# Altium schematic symbol library PPC_notebook_electrical_schematics_v0.6_Library.SchLib: 163 symbols (part 1 of 2)
Pins are listed as number, name and electrical type; pins without a type are passive.

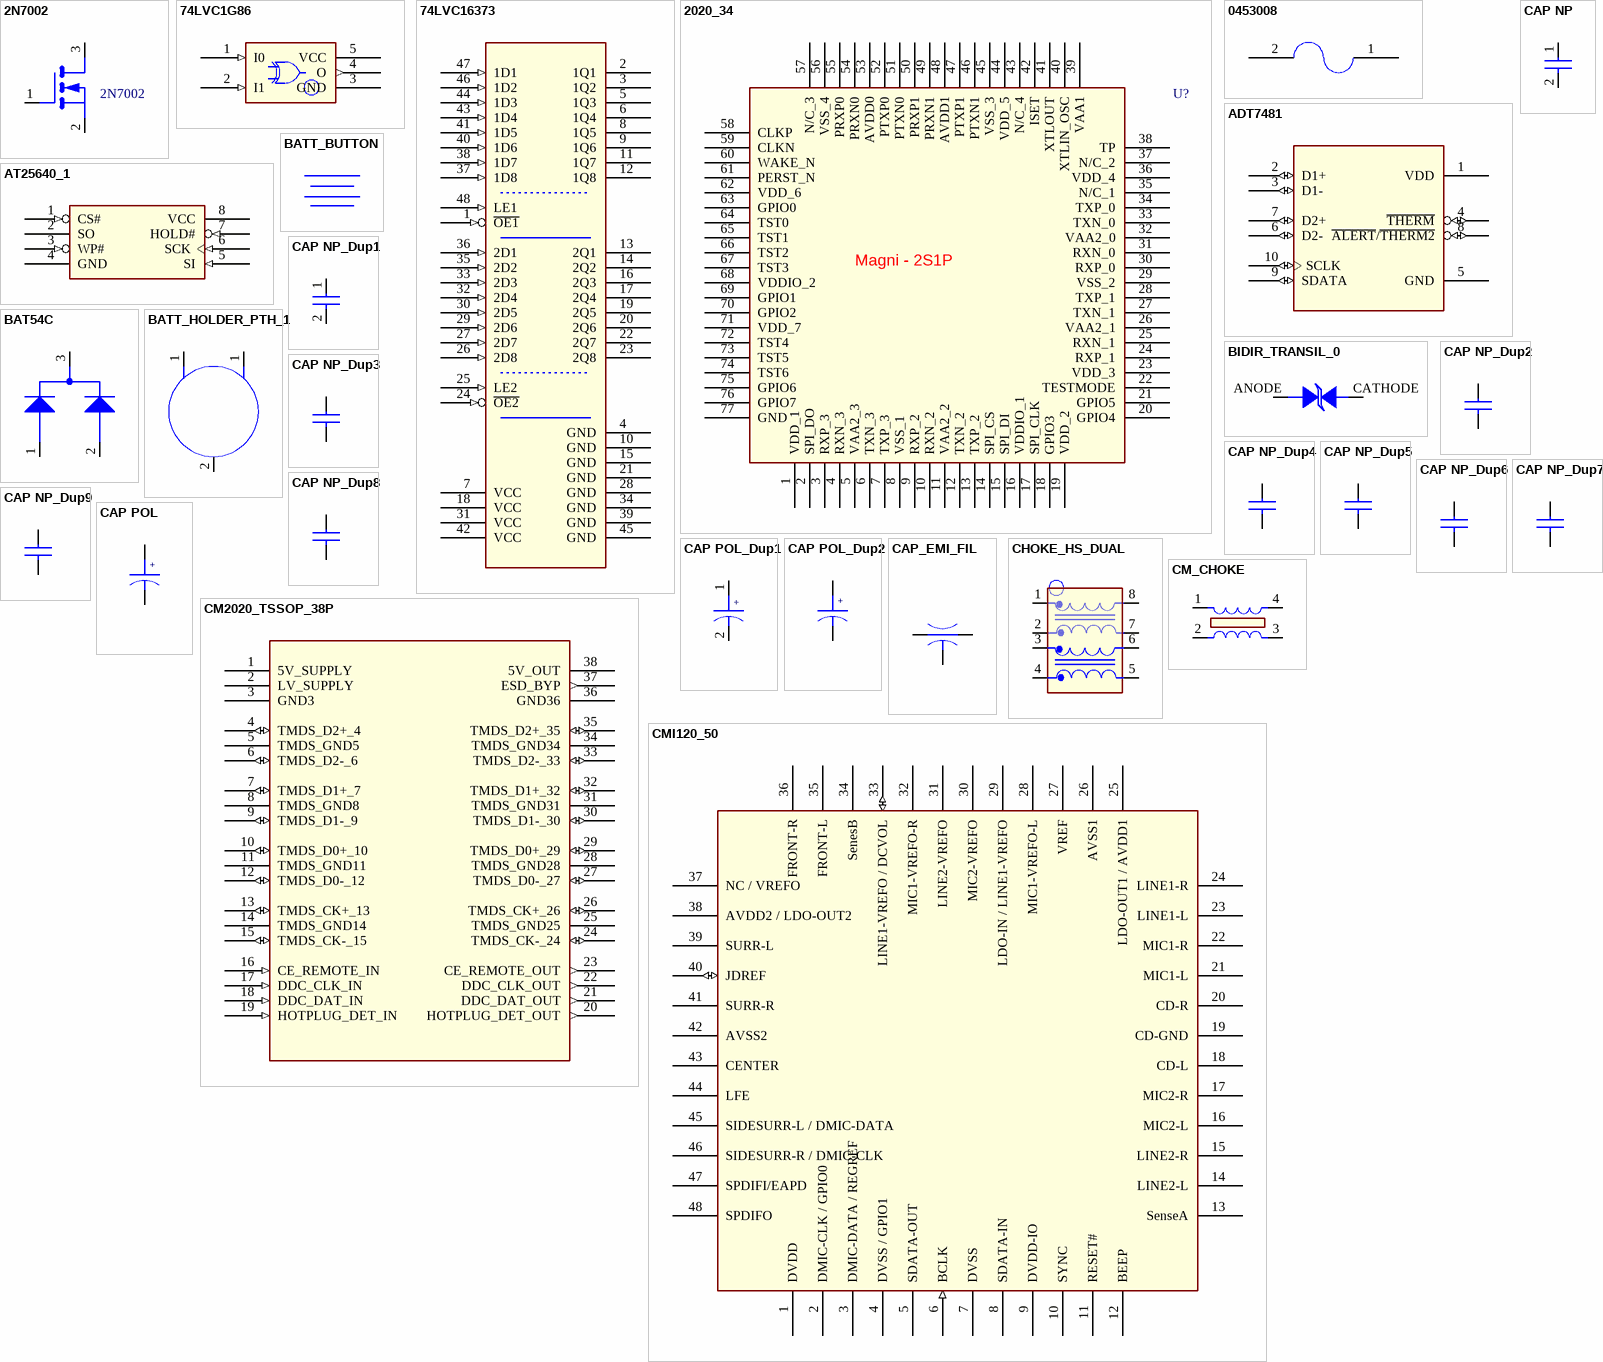
[diagram p0: symbols 2N7002 to CMI120_50]

## 2N7002
designator Q?
7TH PART FIELD: N-MOSFET; 4TH PART FIELD: ZETEX; 5TH PART FIELD: 2N7002
footprint SOT23
pins: 1, 2, 3

## 74LVC1G86
designator U?
footprint sc70_5
pins: 1 I0 (in), 2 I1 (in), 3 GND (power), 4 O (out), 5 VCC (power)

## 74LVC16373
designator U?
footprint tssop_48w
pins: 1 ~{OE1} (in), 2 1Q1 (hiz), 3 1Q2 (hiz), 4 GND (power), 5 1Q3 (hiz), 6 1Q4 (hiz), 7 VCC (power), 8 1Q5 (hiz), 9 1Q6 (hiz), 10 GND (power), 11 1Q7 (hiz), 12 1Q8 (hiz), 13 2Q1 (hiz), 14 2Q2 (hiz), 15 GND (power), 16 2Q3 (hiz), 17 2Q4 (hiz), 18 VCC (power), 19 2Q5 (hiz), 20 2Q6 (hiz), 21 GND (power), 22 2Q7 (hiz), 23 2Q8 (hiz), 24 ~{OE2} (in), 25 LE2 (in), 26 2D8 (in), 27 2D7 (in), 28 GND (power), 29 2D6 (in), 30 2D5 (in), 31 VCC (power), 32 2D4 (in), 33 2D3 (in), 34 GND (power), 35 2D2 (in), 36 2D1 (in), 37 1D8 (in), 38 1D7 (in), 39 GND (power), 40 1D6 (in), 41 1D5 (in), 42 VCC (power), 43 1D4 (in), 44 1D3 (in), 45 GND (power), 46 1D2 (in), 47 1D1 (in), 48 LE1 (in)

## 2020_34
designator U?  Display Value: Magni - 2S1P  (hidden comment: *)
2020; MFR_Name: Marvell Semi; Mfr_Part_Number: 2020; Distributor_Part_Number: www.unique-technologies.com
pins: 1 VDD_1 (power), 2 SPI_DO, 3 RXP_3, 4 RXN_3, 5 VAA2_3 (power), 6 TXN_3, 7 TXP_3, 8 VSS_1 (power), 9 RXP_2, 10 RXN_2, 11 VAA2_2 (power), 12 TXN_2, 13 TXP_2, 14 SPI_CS, 15 SPI_DI, 16 VDDIO_1 (power), 17 SPI_CLK, 18 GPIO3, 19 VDD_2 (power), 20 GPIO4, 21 GPIO5, 22 TESTMODE, 23 VDD_3 (power), 24 RXP_1, 25 RXN_1, 26 VAA2_1, 27 TXN_1, 28 TXP_1, 29 VSS_2 (power), 30 RXP_0, 31 RXN_0, 32 VAA2_0, 33 TXN_0, 34 TXP_0, 35 N/C_1, 36 VDD_4 (power), 37 N/C_2, 38 TP, 39 VAA1 (power), 40 XTLIN_OSC, 41 XTLOUT, 42 ISET, 43 N/C_4, 44 VDD_5 (power), 45 VSS_3 (power), 46 PTXN1, 47 PTXP1, 48 AVDD1 (power), 49 PRXN1, 50 PRXP1, 51 PTXN0, 52 PTXP0, 53 AVDD0 (power), 54 PRXN0, 55 PRXP0, 56 VSS_4 (power), 57 N/C_3, 58 CLKP, 59 CLKN, 60 WAKE_N, 61 PERST_N, 62 VDD_6 (power), 63 GPIO0, 64 TST0, 65 TST1, 66 TST2, 67 TST3, 68 VDDIO_2 (power), 69 GPIO1, 70 GPIO2, 71 VDD_7 (power), 72 TST4, 73 TST5, 74 TST6, 75 GPIO6, 76 GPIO7, 77 GND (power)

## 0453008
designator FUSE?
footprint SMD
pins: 1, 2

## ADT7481
designator U?
footprint msop_10
pins: 1 VDD (power), 2 D1+ (io), 3 D1- (io), 4 ~{THERM} (io), 5 GND (power), 6 D2- (io), 7 D2+ (io), 8 ~{ALERT}/~{THERM2} (io), 9 SDATA (io), 10 SCLK (io)

## AT25640_1
designator U?
pins: 1 CS# (in), 2 SO (hiz), 3 WP# (in), 4 GND, 5 SI (in), 6 SCK (in), 7 HOLD# (in), 8 VCC

## BAT54C
designator D?
pins: 1 C1, 2 C2, 3 A

## BATT_BUTTON
designator BATT?

## BATT_HOLDER_PTH_1
designator BT?
pins: 1 1POS, 1 3POS, 2 2NEG (power)

## BIDIR_TRANSIL_0
designator D?
pins: ANODE, CATHODE

## CAP NP
designator C?
pins: 1, 2

## CAP NP_Dup1
designator C?
pins: 1, 2

## CAP NP_Dup2
designator C?
pins: 1, 2

## CAP NP_Dup3
designator C?
pins: 1, 2

## CAP NP_Dup4
designator C?
pins: 1, 2

## CAP NP_Dup5
designator C?
pins: 1, 2

## CAP NP_Dup6
designator C?
pins: 1, 2

## CAP NP_Dup7
designator C?
pins: 1, 2

## CAP NP_Dup8
designator C?
pins: 1, 2

## CAP NP_Dup9
designator C?
pins: 1, 2

## CAP POL
designator C?
pins: 1, 2
text: +

## CAP POL_Dup1
designator C?
pins: 1, 2
text: +

## CAP POL_Dup2
designator C?
pins: 1, 2
text: +

## CAP_EMI_FIL
designator FL?
pins: 1 IN, 2 GND, 3 OUT

## CHOKE_HS_DUAL
designator FL?
pins: 1, 2, 3, 4, 5, 6, 7, 8

## CM2020_TSSOP_38P
designator U?
CLASS: IC
pins: 1 5V_SUPPLY (power), 2 LV_SUPPLY (power), 3 GND3 (power), 4 TMDS_D2+_4 (io), 5 TMDS_GND5 (power), 6 TMDS_D2-_6 (io), 7 TMDS_D1+_7 (io), 8 TMDS_GND8 (power), 9 TMDS_D1-_9 (io), 10 TMDS_D0+_10 (io), 11 TMDS_GND11 (power), 12 TMDS_D0-_12 (io), 13 TMDS_CK+_13 (io), 14 TMDS_GND14 (power), 15 TMDS_CK-_15 (io), 16 CE_REMOTE_IN (in), 17 DDC_CLK_IN (in), 18 DDC_DAT_IN (in), 19 HOTPLUG_DET_IN (in), 20 HOTPLUG_DET_OUT (out), 21 DDC_DAT_OUT (out), 22 DDC_CLK_OUT (out), 23 CE_REMOTE_OUT (out), 24 TMDS_CK-_24 (io), 25 TMDS_GND25 (power), 26 TMDS_CK+_26 (io), 27 TMDS_D0-_27 (io), 28 TMDS_GND28 (power), 29 TMDS_D0+_29 (io), 30 TMDS_D1-_30 (io), 31 TMDS_GND31 (power), 32 TMDS_D1+_32 (io), 33 TMDS_D2-_33 (io), 34 TMDS_GND34 (power), 35 TMDS_D2+_35 (io), 36 GND36 (power), 37 ESD_BYP (out), 38 5V_OUT (power)

## CM_CHOKE
designator L?
pins: 1, 2, 3, 4

## CMI120_50
designator U?
pins: 1 DVDD (power), 2 DMIC-CLK / GPIO0, 3 DMIC-DATA / REGREF, 4 DVSS / GPIO1 (power), 5 SDATA-OUT, 6 BCLK (in), 7 DVSS (power), 8 SDATA-IN, 9 DVDD-IO, 10 SYNC, 11 RESET#, 12 BEEP, 13 SenseA, 14 LINE2-L, 15 LINE2-R, 16 MIC2-L, 17 MIC2-R, 18 CD-L, 19 CD-GND, 20 CD-R, 21 MIC1-L, 22 MIC1-R, 23 LINE1-L, 24 LINE1-R, 25 LDO-OUT1 / AVDD1 (power), 26 AVSS1 (power), 27 VREF, 28 MIC1-VREFO-L, 29 LDO-IN / LINE1-VREFO, 30 MIC2-VREFO, 31 LINE2-VREFO, 32 MIC1-VREFO-R, 33 LINE1-VREFO / DCVOL (io), 34 SenesB, 35 FRONT-L, 36 FRONT-R, 37 NC / VREFO, 38 AVDD2 / LDO-OUT2 (power), 39 SURR-L, 40 JDREF (io), 41 SURR-R, 42 AVSS2, 43 CENTER, 44 LFE, 45 SIDESURR-L / DMIC-DATA, 46 SIDESURR-R / DMIC-CLK, 47 SPDIFI/EAPD, 48 SPDIFO

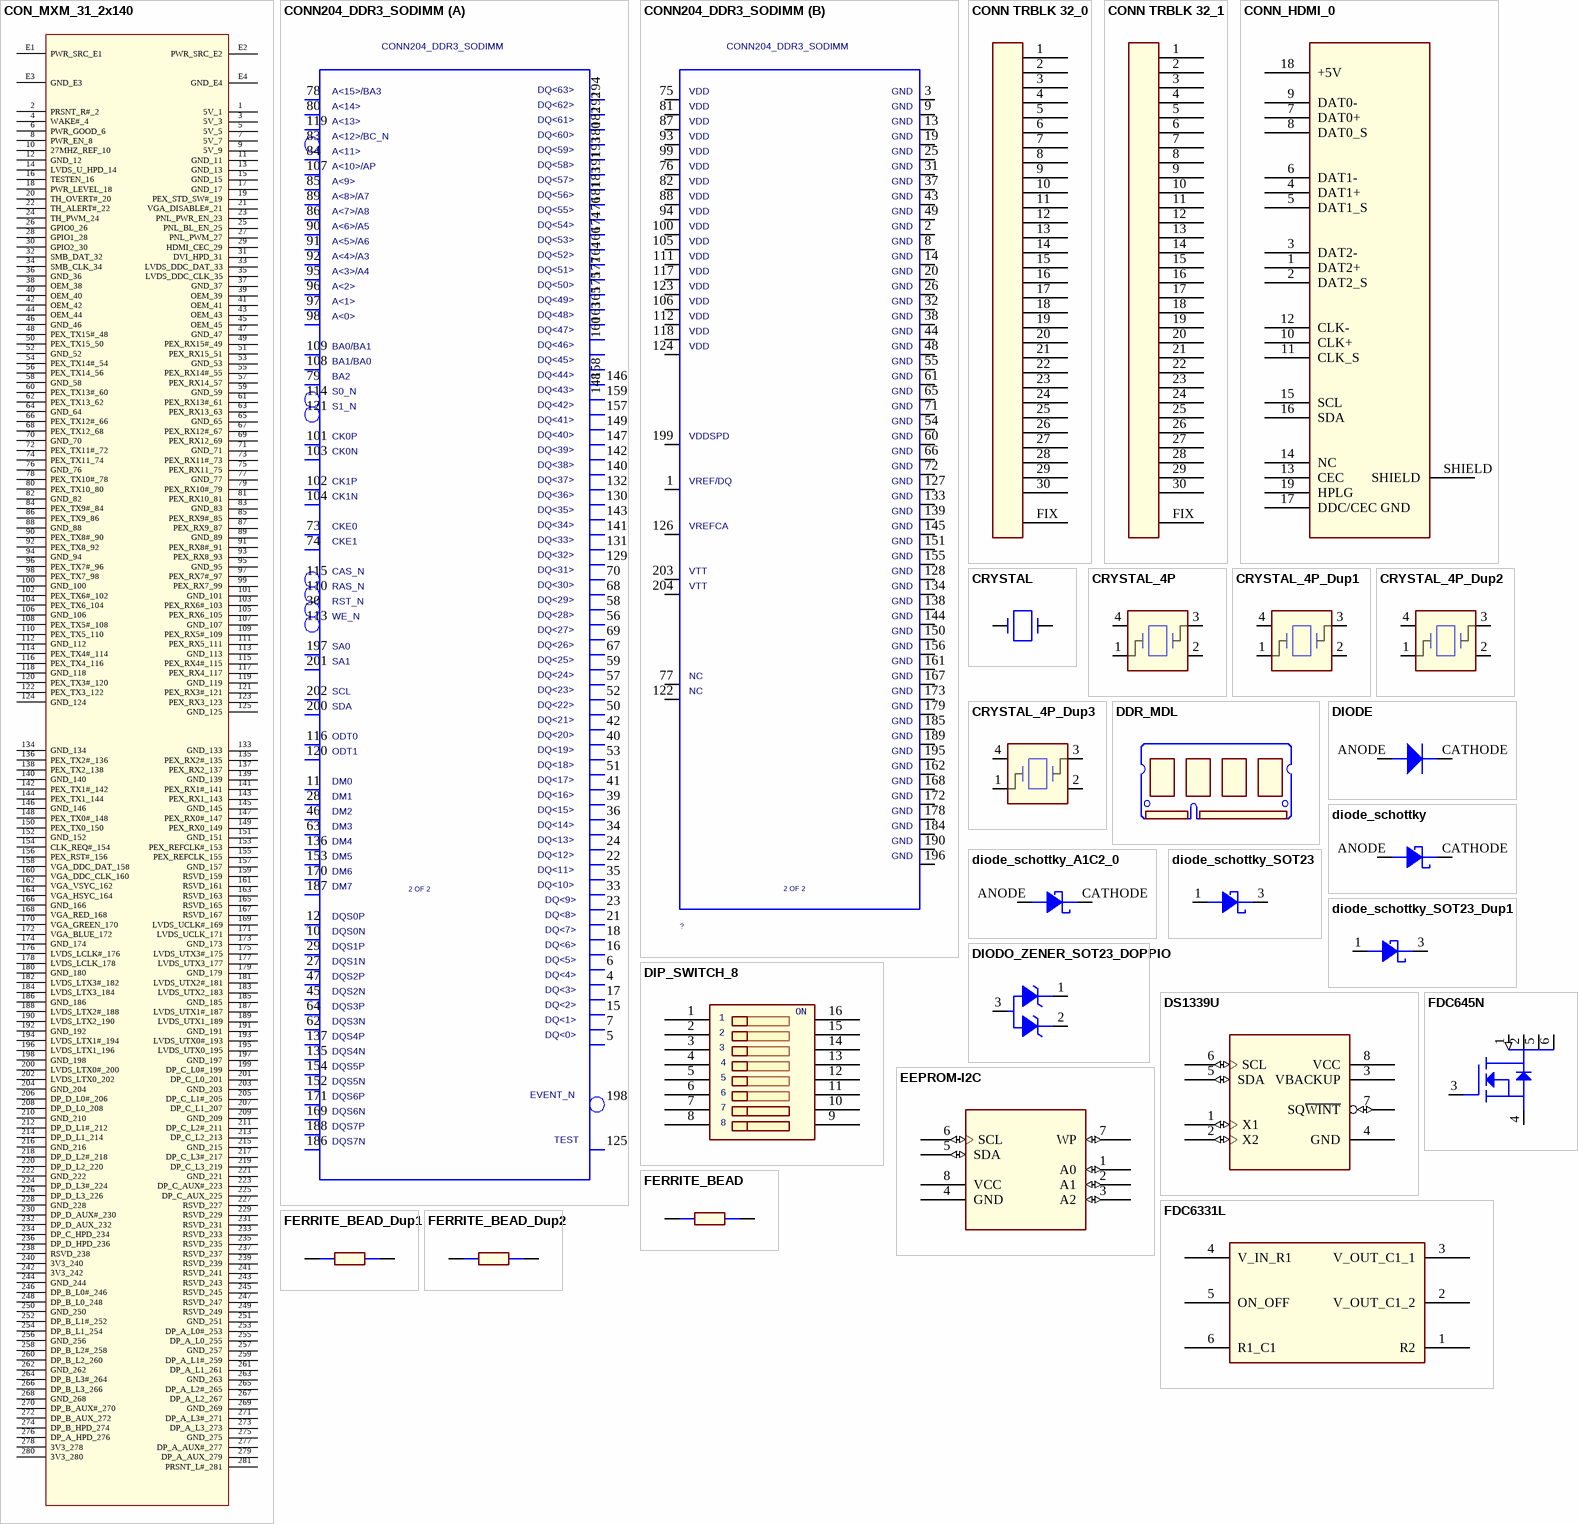
[diagram p1: symbols CON_MXM_31_2x140 to FERRITE_BEAD_Dup2]

## CON_MXM_31_2x140
designator J?
pins: 1 5V_1, 2 PRSNT_R#_2, 3 5V_3, 4 WAKE#_4, 5 5V_5, 6 PWR_GOOD_6, 7 5V_7, 8 PWR_EN_8, 9 5V_9, 10 27MHZ_REF_10, 11 GND_11, 12 GND_12, 13 GND_13, 14 LVDS_U_HPD_14, 15 GND_15, 16 TESTEN_16, 17 GND_17, 18 PWR_LEVEL_18, 19 PEX_STD_SW#_19, 20 TH_OVERT#_20, 21 VGA_DISABLE#_21, 22 TH_ALERT#_22, 23 PNL_PWR_EN_23, 24 TH_PWM_24, 25 PNL_BL_EN_25, 26 GPIO0_26, 27 PNL_PWM_27, 28 GPIO1_28, 29 HDMI_CEC_29, 30 GPIO2_30, 31 DVI_HPD_31, 32 SMB_DAT_32, 33 LVDS_DDC_DAT_33, 34 SMB_CLK_34, 35 LVDS_DDC_CLK_35, 36 GND_36, 37 GND_37, 38 OEM_38, 39 OEM_39, 40 OEM_40, 41 OEM_41, 42 OEM_42, 43 OEM_43, 44 OEM_44, 45 OEM_45, 46 GND_46, 47 GND_47, 48 PEX_TX15#_48, 49 PEX_RX15#_49, 50 PEX_TX15_50, 51 PEX_RX15_51, 52 GND_52, 53 GND_53, 54 PEX_TX14#_54, 55 PEX_RX14#_55, 56 PEX_TX14_56, 57 PEX_RX14_57, 58 GND_58, 59 GND_59, 60 PEX_TX13#_60, 61 PEX_RX13#_61, 62 PEX_TX13_62, 63 PEX_RX13_63, 64 GND_64, 65 GND_65, 66 PEX_TX12#_66, 67 PEX_RX12#_67, 68 PEX_TX12_68, 69 PEX_RX12_69, 70 GND_70, 71 GND_71, 72 PEX_TX11#_72, 73 PEX_RX11#_73, 74 PEX_TX11_74, 75 PEX_RX11_75, 76 GND_76, 77 GND_77, 78 PEX_TX10#_78, 79 PEX_RX10#_79, 80 PEX_TX10_80, 81 PEX_RX10_81, 82 GND_82, 83 GND_83, 84 PEX_TX9#_84, 85 PEX_RX9#_85, 86 PEX_TX9_86, 87 PEX_RX9_87, 88 GND_88, 89 GND_89, 90 PEX_TX8#_90, 91 PEX_RX8#_91, 92 PEX_TX8_92, 93 PEX_RX8_93, 94 GND_94, 95 GND_95, 96 PEX_TX7#_96, 97 PEX_RX7#_97, 98 PEX_TX7_98, 99 PEX_RX7_99, 100 GND_100, 101 GND_101, 102 PEX_TX6#_102, 103 PEX_RX6#_103, 104 PEX_TX6_104, 105 PEX_RX6_105, 106 GND_106, 107 GND_107, 108 PEX_TX5#_108, 109 PEX_RX5#_109, 110 PEX_TX5_110, 111 PEX_RX5_111, 112 GND_112, 113 GND_113, 114 PEX_TX4#_114, 115 PEX_RX4#_115, 116 PEX_TX4_116, 117 PEX_RX4_117, 118 GND_118, 119 GND_119, 120 PEX_TX3#_120, 121 PEX_RX3#_121, 122 PEX_TX3_122, 123 PEX_RX3_123, 124 GND_124, 125 GND_125, 133 GND_133, 134 GND_134, 135 PEX_RX2#_135, 136 PEX_TX2#_136, 137 PEX_RX2_137, 138 PEX_TX2_138, 139 GND_139, 140 GND_140, 141 PEX_RX1#_141, 142 PEX_TX1#_142, 143 PEX_RX1_143, 144 PEX_TX1_144, 145 GND_145, 146 GND_146, 147 PEX_RX0#_147, 148 PEX_TX0#_148, 149 PEX_RX0_149, 150 PEX_TX0_150, 151 GND_151, 152 GND_152, 153 PEX_REFCLK#_153, 154 CLK_REQ#_154, 155 PEX_REFCLK_155, 156 PEX_RST#_156, 157 GND_157, 158 VGA_DDC_DAT_158, 159 RSVD_159, 160 VGA_DDC_CLK_160, 161 RSVD_161, 162 VGA_VSYC_162, 163 RSVD_163, 164 VGA_HSYC_164, 165 RSVD_165, 166 GND_166, 167 RSVD_167, 168 VGA_RED_168, 169 LVDS_UCLK#_169, 170 VGA_GREEN_170, 171 LVDS_UCLK_171, 172 VGA_BLUE_172, 173 GND_173, 174 GND_174, 175 LVDS_UTX3#_175, 176 LVDS_LCLK#_176, 177 LVDS_UTX3_177, 178 LVDS_LCLK_178, 179 GND_179, 180 GND_180, 181 LVDS_UTX2#_181, 182 LVDS_LTX3#_182, 183 LVDS_UTX2_183, 184 LVDS_LTX3_184, 185 GND_185, 186 GND_186, 187 LVDS_UTX1#_187, 188 LVDS_LTX2#_188, 189 LVDS_UTX1_189, 190 LVDS_LTX2_190, 191 GND_191, 192 GND_192, 193 LVDS_UTX0#_193, 194 LVDS_LTX1#_194, 195 LVDS_UTX0_195, 196 LVDS_LTX1_196, 197 GND_197, 198 GND_198, 199 DP_C_L0#_199, 200 LVDS_LTX0#_200, 201 DP_C_L0_201, 202 LVDS_LTX0_202, 203 GND_203, 204 GND_204, 205 DP_C_L1#_205, 206 DP_D_L0#_206, 207 DP_C_L1_207, 208 DP_D_L0_208, 209 GND_209, 210 GND_210, 211 DP_C_L2#_211, 212 DP_D_L1#_212, 213 DP_C_L2_213, 214 DP_D_L1_214, 215 GND_215, 216 GND_216, 217 DP_C_L3#_217, 218 DP_D_L2#_218, 219 DP_C_L3_219, 220 DP_D_L2_220, 221 GND_221, 222 GND_222, 223 DP_C_AUX#_223, 224 DP_D_L3#_224, 225 DP_C_AUX_225, 226 DP_D_L3_226, 227 RSVD_227, 228 GND_228, 229 RSVD_229, 230 DP_D_AUX#_230, 231 RSVD_231, 232 DP_D_AUX_232, 233 RSVD_233, 234 DP_C_HPD_234, 235 RSVD_235, 236 DP_D_HPD_236, 237 RSVD_237, 238 RSVD_238, 239 RSVD_239, 240 3V3_240, 241 RSVD_241, 242 3V3_242, 243 RSVD_243, 244 GND_244, 245 RSVD_245, 246 DP_B_L0#_246, 247 RSVD_247, 248 DP_B_L0_248, 249 RSVD_249, 250 GND_250, 251 GND_251, 252 DP_B_L1#_252, 253 DP_A_L0#_253, 254 DP_B_L1_254, 255 DP_A_L0_255, 256 GND_256, 257 GND_257, 258 DP_B_L2#_258, 259 DP_A_L1#_259, 260 DP_B_L2_260, 261 DP_A_L1_261, 262 GND_262, 263 GND_263, 264 DP_B_L3#_264, 265 DP_A_L2#_265, 266 DP_B_L3_266, 267 DP_A_L2_267, 268 GND_268, 269 GND_269, 270 DP_B_AUX#_270, 271 DP_A_L3#_271, 272 DP_B_AUX_272, 273 DP_A_L3_273, 274 DP_B_HPD_274, 275 GND_275, 276 DP_A_HPD_276, 277 DP_A_AUX#_277, 278 3V3_278, 279 DP_A_AUX_279, 280 3V3_280, 281 PRSNT_L#_281, E1 PWR_SRC_E1, E2 PWR_SRC_E2, E3 GND_E3, E4 GND_E4

## CONN204_DDR3_SODIMM
designator ?  PART_SYM_NUM: 2 OF 2  (hidden comment: CONN204_DDR3_SODIMM)
OriginalSymbolOrigin: (-400,1400); MATERIAL: ?; PACK_TYPE: ?; PART_NUMBER: ?
part A pins: 4 DQ[4] (io), 5 DQ[0] (io), 6 DQ[5] (io), 7 DQ[1] (io), 10 DQS0N (io), 11 DM0 (io), 12 DQS0P (io), 15 DQ[2] (io), 16 DQ[6] (io), 17 DQ[3] (io), 18 DQ[7] (io), 21 DQ[8] (io), 22 DQ[12] (io), 23 DQ[9] (io), 24 DQ[13] (io), 27 DQS1N (io), 28 DM1 (io), 29 DQS1P (io), 30 RST_N (io), 33 DQ[10] (io), 34 DQ[14] (io), 35 DQ[11] (io), 36 DQ[15] (io), 39 DQ[16] (io), 40 DQ[20] (io), 41 DQ[17] (io), 42 DQ[21] (io), 45 DQS2N (io), 46 DM2 (io), 47 DQS2P (io), 50 DQ[22] (io), 51 DQ[18] (io), 52 DQ[23] (io), 53 DQ[19] (io), 56 DQ[28] (io), 57 DQ[24] (io), 58 DQ[29] (io), 59 DQ[25] (io), 62 DQS3N (io), 63 DM3 (io), 64 DQS3P (io), 67 DQ[26] (io), 68 DQ[30] (io), 69 DQ[27] (io), 70 DQ[31] (io), 73 CKE0 (io), 74 CKE1 (io), 78 A[15] (io), 79 BA2 (io), 80 A[14] (in), 83 A[12] (in), 84 A[11] (in), 85 A[9] (in), 86 A[7] (in), 89 A[8] (in), 90 A[6] (in), 91 A[5] (in), 92 A[4] (in), 95 A[3] (in), 96 A[2] (in), 97 A[1] (in), 98 A[0] (in), 101 CK0P (io), 102 CK1P (io), 103 CK0N (io), 104 CK1N (io), 107 A[10] (in), 108 BA1_BA0 (io), 109 BA0_BA1 (io), 110 RAS_N (io), 113 WE_N (io), 114 S0_N (io), 115 CAS_N (io), 116 ODT0 (io), 119 A[13] (in), 120 ODT1 (io), 121 S1_N (io), 125 TEST (io), 129 DQ[32] (io), 130 DQ[36] (io), 131 DQ[33] (io), 132 DQ[37] (io), 135 DQS4N (io), 136 DM4 (io), 137 DQS4P (io), 140 DQ[38] (io), 141 DQ[34] (io), 142 DQ[39] (io), 143 DQ[35] (io), 146 DQ[44] (io), 147 DQ[40] (io), 148 DQ[45] (io), 149 DQ[41] (io), 152 DQS5N (io), 153 DM5 (io), 154 DQS5P (io), 157 DQ[42] (io), 158 DQ[46] (io), 159 DQ[43] (io), 160 DQ[47] (io), 163 DQ[48] (io), 164 DQ[52] (io), 165 DQ[49] (io), 166 DQ[53] (io), 169 DQS6N (io), 170 DM6 (io), 171 DQS6P (io), 174 DQ[54] (io), 175 DQ[50] (io), 176 DQ[55] (io), 177 DQ[51] (io), 180 DQ[60] (io), 181 DQ[56] (io), 182 DQ[61] (io), 183 DQ[57] (io), 186 DQS7N (io), 187 DM7 (io), 188 DQS7P (io), 191 DQ[58] (io), 192 DQ[62] (io), 193 DQ[59] (io), 194 DQ[63] (io), 197 SA0 (io), 198 EVENT_N (io), 200 SDA (io), 201 SA1 (io), 202 SCL (io)
part B pins: 1 VREF_DQ (power), 2 GND_2 (io), 3 GND_3 (io), 8 GND_8 (io), 9 GND_9 (io), 13 GND_13 (io), 14 GND_14 (io), 19 GND_19 (io), 20 GND_20 (io), 25 GND_25 (io), 26 GND_26 (io), 31 GND_31 (io), 32 GND_32 (io), 37 GND_37 (io), 38 GND_38 (io), 43 GND_43 (io), 44 GND_44 (io), 48 GND_48 (io), 49 GND_49 (io), 54 GND_54 (io), 55 GND_55 (io), 60 GND_60 (io), 61 GND_61 (io), 65 GND_65 (io), 66 GND_66 (io), 71 GND_71 (io), 72 GND_72 (io), 75 VDD_75 (power), 76 VDD_76 (power), 77 NC_77 (io), 81 VDD_81 (power), 82 VDD_82 (power), 87 VDD_87 (power), 88 VDD_88 (power), 93 VDD_93 (power), 94 VDD_94 (power), 99 VDD_99 (power), 100 VDD_100 (power), 105 VDD_105 (power), 106 VDD_106 (power), 111 VDD_111 (power), 112 VDD_112 (power), 117 VDD_117 (power), 118 VDD_118 (power), 122 NC_122 (io), 123 VDD_123 (power), 124 VDD_124 (power), 126 VREFCA (power), 127 GND_127 (io), 128 GND_128 (io), 133 GND_133 (io), 134 GND_134 (io), 138 GND_138 (io), 139 GND_139 (io), 144 GND_144 (io), 145 GND_145 (io), 150 GND_150 (io), 151 GND_151 (io), 155 GND_155 (io), 156 GND_156 (io), 161 GND_161 (io), 162 GND_162 (io), 167 GND_167 (io), 168 GND_168 (io), 172 GND_172 (io), 173 GND_173 (io), 178 GND_178 (io), 179 GND_179 (io), 184 GND_184 (io), 185 GND_185 (io), 189 GND_189 (io), 190 GND_190 (io), 195 GND_195 (io), 196 GND_196 (io), 199 VDDSPD (power), 203 VTT_203 (power), 204 VTT_204 (power)
part A text: A<15>/BA3; DQ<63>; A<14>; DQ<62>; A<13>; DQ<61>; A<12>/BC_N; DQ<60>; A<11>; DQ<59>; A<10>/AP; DQ<58>; A<9>; DQ<57>; A<8>/A7; DQ<56>; A<7>/A8; DQ<55>; A<6>/A5; DQ<54>; A<5>/A6; DQ<53>; A<4>/A3; DQ<52>; A<3>/A4; DQ<51>; A<2>; DQ<50>; A<1>; DQ<49>; A<0>; DQ<48>; DQ<47>; BA0/BA1; DQ<46>; BA1/BA0; DQ<45>; DQ<44>; DQ<43>; DQ<42>; DQ<41>; DQ<40>; DQ<39>; DQ<38>; DQ<37>; DQ<36>; DQ<35>; DQ<34>; DQ<33>; DQ<32>; DQ<31>; DQ<30>; DQ<29>; DQ<28>; DQ<27>; DQ<26>; DQ<25>; DQ<24>; DQ<23>; DQ<22>; DQ<21>; DQ<20>; DQ<19>; DQ<18>; DQ<17>; DQ<16>; DQ<15>; DQ<14>; DQ<13>; DQ<12>; DQ<11>; DQ<10>; DQ<9>; DQ<8>; DQ<7>; DQ<6>; DQ<5>; DQ<4>; DQ<3>; DQ<2>; DQ<1>; DQ<0>
part B text: VDD; GND; VREF/DQ; VTT; NC

## CONN TRBLK 32_0
designator J?
pins: 1, 2, 3, 4, 5, 6, 7, 8, 9, 10, 11, 12, 13, 14, 15, 16, 17, 18, 19, 20, 21, 22, 23, 24, 25, 26, 27, 28, 29, 30, FIX

## CONN TRBLK 32_1
designator J?
pins: 1, 2, 3, 4, 5, 6, 7, 8, 9, 10, 11, 12, 13, 14, 15, 16, 17, 18, 19, 20, 21, 22, 23, 24, 25, 26, 27, 28, 29, 30, FIX

## CONN_HDMI_0
designator J?
pins: 1 DAT2+, 2 DAT2_S, 3 DAT2-, 4 DAT1+, 5 DAT1_S, 6 DAT1-, 7 DAT0+, 8 DAT0_S, 9 DAT0-, 10 CLK+, 11 CLK_S, 12 CLK-, 13 CEC, 14 NC, 15 SCL, 16 SDA, 17 DDC/CEC GND, 18 +5V, 19 HPLG, SHIELD

## CRYSTAL
designator Y?
pins: 1, 2

## CRYSTAL_4P
designator Y?
pins: 1, 2, 3, 4

## CRYSTAL_4P_Dup1
designator Y?
pins: 1, 2, 3, 4

## CRYSTAL_4P_Dup2
designator Y?
pins: 1, 2, 3, 4

## CRYSTAL_4P_Dup3
designator Y?
pins: 1, 2, 3, 4

## DDR_MDL
designator M?
footprint none

## DIODE
designator D?
pins: ANODE, CATHODE

## diode_schottky
designator D?
pins: ANODE, CATHODE

## diode_schottky_A1C2_0
designator D?
pins: ANODE, CATHODE

## diode_schottky_SOT23
designator D?
pins: 1 ANODE, 3 CATHODE

## diode_schottky_SOT23_Dup1
designator D?
pins: 1 ANODE, 3 CATHODE

## DIODO_ZENER_SOT23_DOPPIO
designator D?
pins: 1 CATHODE1, 2 CATHODE2, 3 ANODE

## DIP_SWITCH_8
designator S?
pins: 1, 2, 3, 4, 5, 6, 7, 8, 9, 10, 11, 12, 13, 14, 15, 16
text: ON

## DS1339U
designator U?
pins: 1 X1 (io), 2 X2 (io), 3 VBACKUP (power), 4 GND (power), 5 SDA (io), 6 SCL (io), 7 SQ~{WINT} (io), 8 VCC (power)

## EEPROM-I2C
designator U?
footprint so_8
pins: 1 A0 (io), 2 A1 (io), 3 A2 (io), 4 GND (power), 5 SDA (io), 6 SCL (io), 7 WP (io), 8 VCC (power)

## FDC645N
designator Q?
pins: 1 DRAIN1 (in), 2 DRAIN2, 3 GATE, 4 SOURCE, 5 DRAIN3, 6 DRAIN4

## FDC6331L
designator U?
CLASS: IC
pins: 1 R2, 2 V_OUT_C1_2, 3 V_OUT_C1_1, 4 V_IN_R1, 5 ON_OFF, 6 R1_C1

## FERRITE_BEAD
designator L?
pins: 1, 2

## FERRITE_BEAD_Dup1
designator L?
pins: 1, 2

## FERRITE_BEAD_Dup2
designator L?
pins: 1, 2

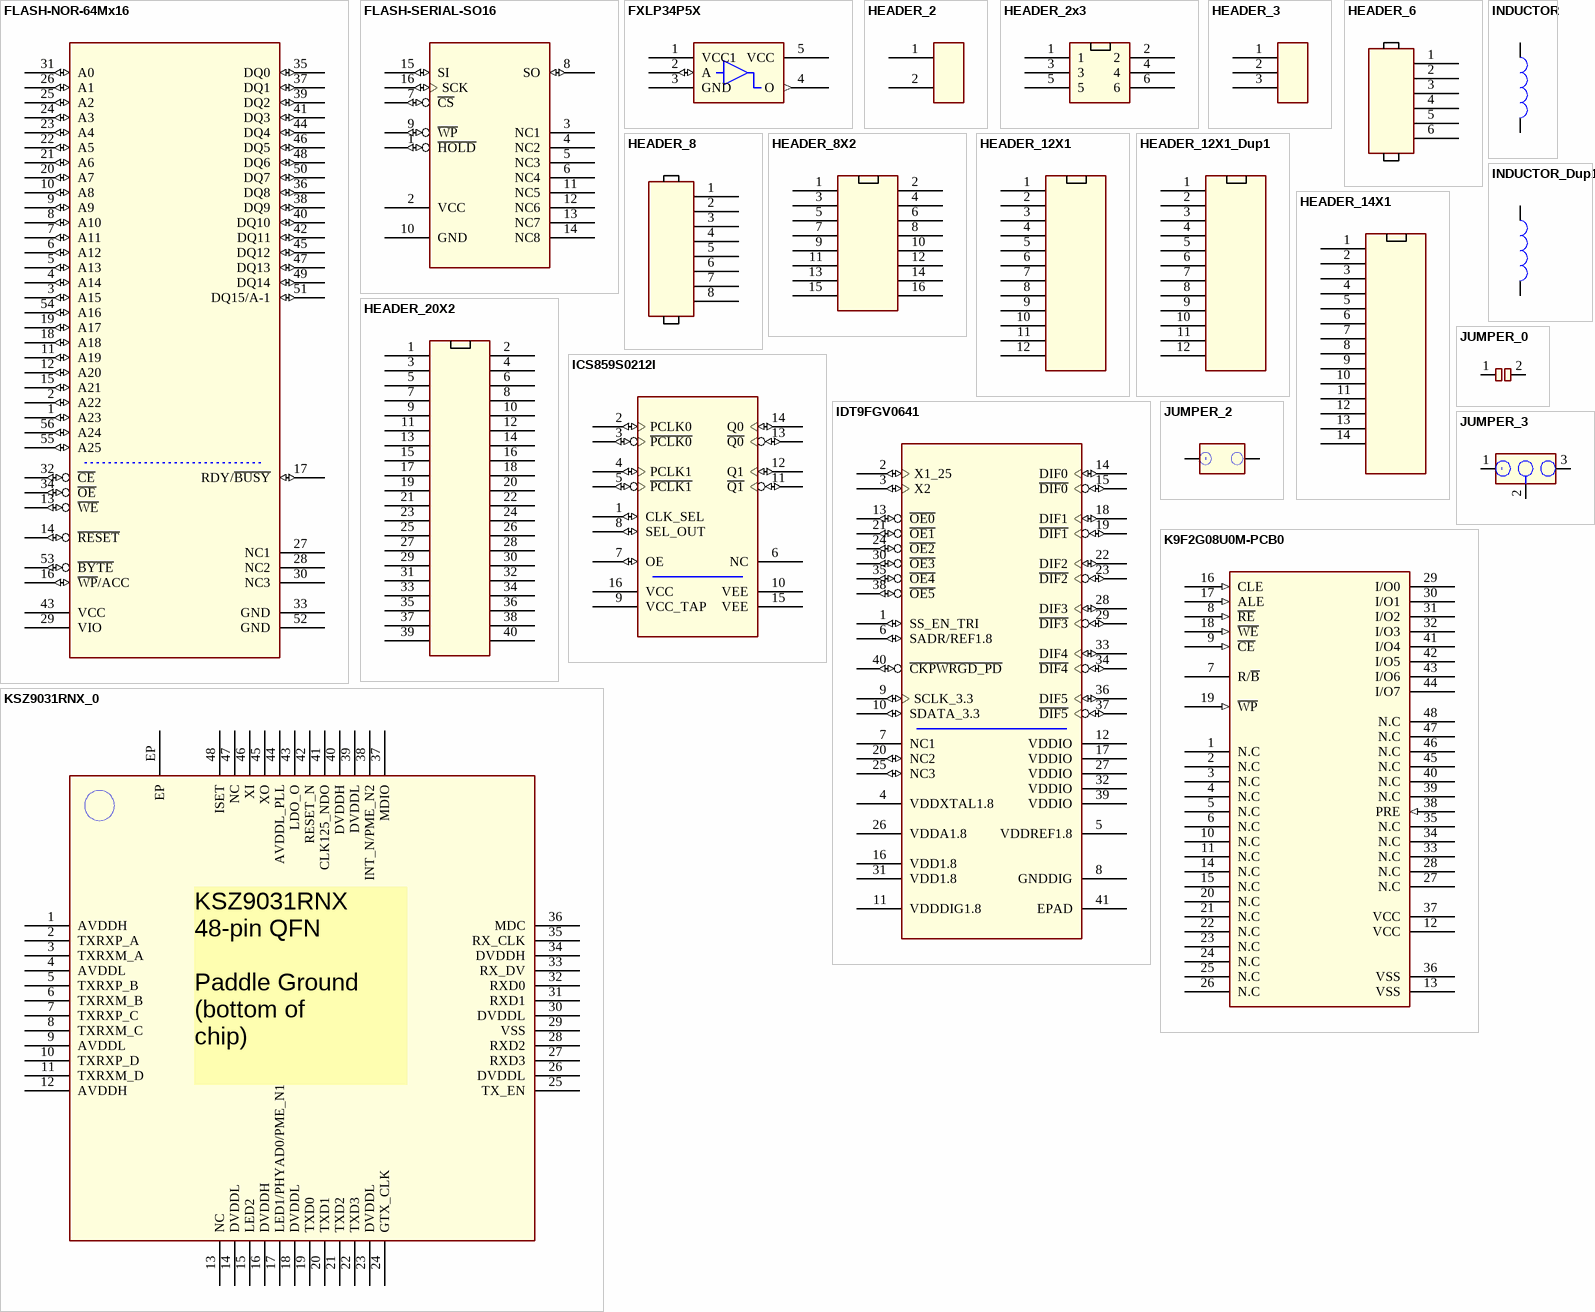
[diagram p2: symbols FLASH-NOR-64Mx16 to KSZ9031RNX_0]

## FLASH-NOR-64Mx16
designator U?
footprint tsop1_56
pins: 1 A23 (io), 2 A22 (io), 3 A15 (io), 4 A14 (io), 5 A13 (io), 6 A12 (io), 7 A11 (io), 8 A10 (io), 9 A9 (io), 10 A8 (io), 11 A19 (io), 12 A20 (io), 13 ~{WE} (io), 14 ~{RESET} (io), 15 A21 (io), 16 ~{WP}/ACC (io), 17 RDY/~{BUSY} (io), 18 A18 (io), 19 A17 (io), 20 A7 (io), 21 A6 (io), 22 A5 (io), 23 A4 (io), 24 A3 (io), 25 A2 (io), 26 A1 (io), 27 NC1, 28 NC2, 29 VIO (power), 30 NC3, 31 A0 (io), 32 ~{CE} (io), 33 GND (power), 34 ~{OE} (io), 35 DQ0 (io), 36 DQ8 (io), 37 DQ1 (io), 38 DQ9 (io), 39 DQ2 (io), 40 DQ10 (io), 41 DQ3 (io), 42 DQ11 (io), 43 VCC (power), 44 DQ4 (io), 45 DQ12 (io), 46 DQ5 (io), 47 DQ13 (io), 48 DQ6 (io), 49 DQ14 (io), 50 DQ7 (io), 51 DQ15/A-1 (io), 52 GND (power), 53 ~{BYTE} (io), 54 A16 (io), 55 A25 (io), 56 A24 (io)

## FLASH-SERIAL-SO16
designator U?
footprint so_16l
pins: 1 ~{HOLD} (io), 2 VCC (power), 3 NC1, 4 NC2, 5 NC3, 6 NC4, 7 ~{CS} (io), 8 SO (io), 9 ~{WP} (io), 10 GND (power), 11 NC5, 12 NC6, 13 NC7, 14 NC8, 15 SI (io), 16 SCK (io)

## FXLP34P5X
designator U?
footprint sc70_5
pins: 1 VCC1 (power), 2 A (io), 3 GND (power), 4 O (out), 5 VCC (power)

## HEADER_2
designator J?  (value not drawn)
pins: 1, 2

## HEADER_2x3
designator J?
footprint SMT
pins: 1, 2, 3, 4, 5, 6

## HEADER_3
designator J?  (value not drawn)
pins: 1, 2, 3

## HEADER_6
designator J?
pins: 1, 2, 3, 4, 5, 6

## HEADER_8
designator J?
pins: 1, 2, 3, 4, 5, 6, 7, 8

## HEADER_8X2
designator J?
footprint SMD_2X50_P=0.635mm
pins: 1, 2, 3, 4, 5, 6, 7, 8, 9, 10, 11, 12, 13, 14, 15, 16

## HEADER_12X1
designator J?
footprint SMD_2X50_P=0.635mm
pins: 1, 2, 3, 4, 5, 6, 7, 8, 9, 10, 11, 12

## HEADER_12X1_Dup1
designator J?
footprint SMD_2X50_P=0.635mm
pins: 1, 2, 3, 4, 5, 6, 7, 8, 9, 10, 11, 12

## HEADER_14X1
designator J?
footprint SMD_2X50_P=0.635mm
pins: 1, 2, 3, 4, 5, 6, 7, 8, 9, 10, 11, 12, 13, 14

## HEADER_20X2
designator J?
footprint SMD_2X50_P=0.635mm
pins: 1, 2, 3, 4, 5, 6, 7, 8, 9, 10, 11, 12, 13, 14, 15, 16, 17, 18, 19, 20, 21, 22, 23, 24, 25, 26, 27, 28, 29, 30, 31, 32, 33, 34, 35, 36, 37, 38, 39, 40

## ICS859S0212I
designator U?
footprint tssop_16
pins: 1 CLK_SEL (io), 2 PCLK0 (io), 3 ~{PCLK0} (io), 4 PCLK1 (io), 5 ~{PCLK1} (io), 6 NC, 7 OE (io), 8 SEL_OUT (io), 9 VCC_TAP (power), 10 VEE (power), 11 ~{Q1} (io), 12 Q1 (io), 13 ~{Q0} (io), 14 Q0 (io), 15 VEE (power), 16 VCC (power)

## IDT9FGV0641
designator U?
footprint qfn_p040_d040_b500_40_e380
pins: 1 SS_EN_TRI (io), 2 X1_25 (io), 3 X2 (io), 4 VDDXTAL1.8 (power), 5 VDDREF1.8 (power), 6 SADR/REF1.8 (io), 7 NC1, 8 GNDDIG (power), 9 SCLK_3.3 (io), 10 SDATA_3.3 (io), 11 VDDDIG1.8 (power), 12 VDDIO (power), 13 ~{OE0} (io), 14 DIF0 (io), 15 ~{DIF0} (io), 16 VDD1.8 (power), 17 VDDIO (power), 18 DIF1 (io), 19 ~{DIF1} (io), 20 NC2 (io), 21 ~{OE1} (io), 22 DIF2 (io), 23 ~{DIF2} (io), 24 ~{OE2} (io), 25 NC3 (io), 26 VDDA1.8 (power), 27 VDDIO (power), 28 DIF3 (io), 29 ~{DIF3} (io), 30 ~{OE3} (io), 31 VDD1.8 (power), 32 VDDIO (power), 33 DIF4 (io), 34 ~{DIF4} (io), 35 ~{OE4} (io), 36 DIF5 (io), 37 ~{DIF5} (io), 38 ~{OE5} (io), 39 VDDIO (power), 40 ~{CKPWRGD_PD} (io), 41 EPAD (power)

## INDUCTOR
designator L?
pins: 1, 2

## INDUCTOR_Dup1
designator L?
pins: 1, 2

## JUMPER_0
designator JP?
pins: 1, 2

## JUMPER_2
designator J?
pins: 1, 2

## JUMPER_3
designator J?
pins: 1, 2, 3

## K9F2G08U0M-PCB0
designator U?  (value not drawn)
pins: 1 N.C, 2 N.C, 3 N.C, 4 N.C, 5 N.C, 6 N.C, 7 R/~{B} (oc), 8 ~{RE} (in), 9 ~{CE} (in), 10 N.C, 11 N.C, 12 VCC (power), 13 VSS (power), 14 N.C, 15 N.C, 16 CLE (in), 17 ALE (in), 18 ~{WE} (in), 19 ~{WP} (in), 20 N.C, 21 N.C, 22 N.C, 23 N.C, 24 N.C, 25 N.C, 26 N.C, 27 N.C, 28 N.C, 29 I/O0 (hiz), 30 I/O1 (hiz), 31 I/O2 (hiz), 32 I/O3 (hiz), 33 N.C, 34 N.C, 35 N.C, 36 VSS (power), 37 VCC (power), 38 PRE (in), 39 N.C, 40 N.C, 41 I/O4 (hiz), 42 I/O5 (hiz), 43 I/O6 (hiz), 44 I/O7 (hiz), 45 N.C, 46 N.C, 47 N.C, 48 N.C

## KSZ9031RNX_0
designator U?, comment KSZ9021RN  (value not drawn)
pins: 1 AVDDH, 2 TXRXP_A, 3 TXRXM_A, 4 AVDDL, 5 TXRXP_B, 6 TXRXM_B, 7 TXRXP_C, 8 TXRXM_C, 9 AVDDL, 10 TXRXP_D, 11 TXRXM_D, 12 AVDDH, 13 NC, 14 DVDDL, 15 LED2, 16 DVDDH, 17 LED1/PHYAD0/PME_N1, 18 DVDDL, 19 TXD0, 20 TXD1, 21 TXD2, 22 TXD3, 23 DVDDL, 24 GTX_CLK, 25 TX_EN, 26 DVDDL, 27 RXD3, 28 RXD2, 29 VSS, 30 DVDDL, 31 RXD1, 32 RXD0, 33 RX_DV, 34 DVDDH, 35 RX_CLK, 36 MDC, 37 MDIO, 38 INT_N/PME_N2, 39 DVDDL, 40 DVDDH, 41 CLK125_NDO, 42 RESET_N, 43 LDO_O, 44 AVDDL_PLL, 45 XO, 46 XI, 47 NC, 48 ISET, EP
text: KSZ9031RNX / 48-pin QFN / Paddle Ground / (bottom of / chip)

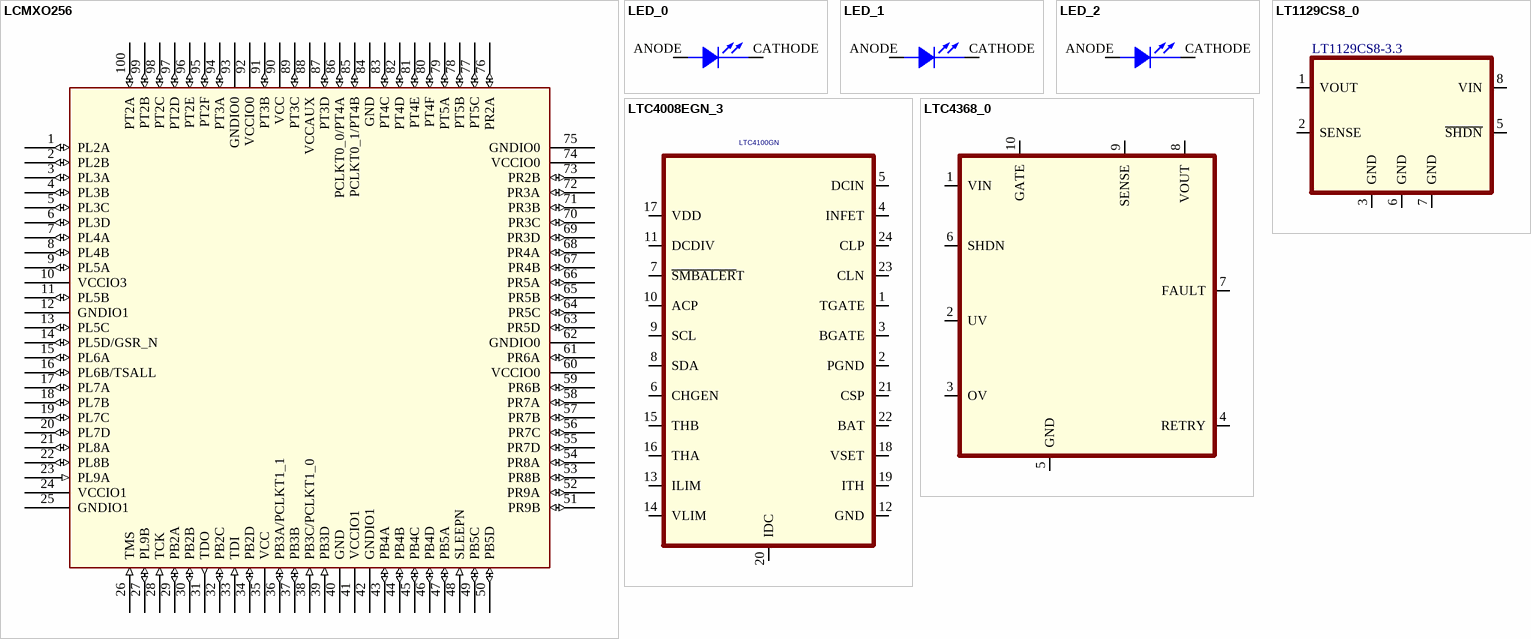
[diagram p3: symbols LCMXO256 to LTC4368_0]

## LCMXO256
designator U?
footprint TQFP-100
pins: 1 PL2A (io), 2 PL2B (io), 3 PL3A (io), 4 PL3B (io), 5 PL3C (io), 6 PL3D (io), 7 PL4A (io), 8 PL4B (io), 9 PL5A (io), 10 VCCIO3 (power), 11 PL5B (io), 12 GNDIO1 (power), 13 PL5C (io), 14 PL5D/GSR_N (io), 15 PL6A (io), 16 PL6B/TSALL (io), 17 PL7A (io), 18 PL7B (io), 19 PL7C (io), 20 PL7D (io), 21 PL8A (io), 22 PL8B (io), 23 PL9A (in), 24 VCCIO1 (power), 25 GNDIO1 (power), 26 TMS (in), 27 PL9B (io), 28 TCK (in), 29 PB2A (io), 30 PB2B (io), 31 TDO (out), 32 PB2C (io), 33 TDI (in), 34 PB2D (io), 35 VCC (power), 36 PB3A/PCLKT1_1 (io), 37 PB3B (io), 38 PB3C/PCLKT1_0 (in), 39 PB3D (in), 40 GND (power), 41 VCCIO1 (power), 42 GNDIO1 (power), 43 PB4A (io), 44 PB4B (io), 45 PB4C (io), 46 PB4D (io), 47 PB5A (io), 48 SLEEPN (in), 49 PB5C (io), 50 PB5D (io), 51 PR9B (io), 52 PR9A (io), 53 PR8B (io), 54 PR8A (io), 55 PR7D (io), 56 PR7C (io), 57 PR7B (io), 58 PR7A (io), 59 PR6B (io), 60 VCCIO0 (power), 61 PR6A (io), 62 GNDIO0 (power), 63 PR5D (io), 64 PR5C (io), 65 PR5B (io), 66 PR5A (io), 67 PR4B (io), 68 PR4A (io), 69 PR3D (io), 70 PR3C (io), 71 PR3B (io), 72 PR3A (io), 73 PR2B (io), 74 VCCIO0 (power), 75 GNDIO0 (power), 76 PR2A (io), 77 PT5C (io), 78 PT5B (io), 79 PT5A (io), 80 PT4F (io), 81 PT4E (io), 82 PT4D (io), 83 PT4C (io), 84 GND (power), 85 PCLKT0_1/PT4B (io), 86 PCLKT0_0/PT4A (io), 87 PT3D (io), 88 VCCAUX (power), 89 PT3C (io), 90 VCC (power), 91 PT3B (io), 92 VCCIO0 (power), 93 GNDIO0 (power), 94 PT3A (io), 95 PT2F (io), 96 PT2E (io), 97 PT2D (io), 98 PT2C (io), 99 PT2B (io), 100 PT2A (io)

## LED_0
designator D?
pins: ANODE, CATHODE

## LED_1
designator D?
footprint led_0603
pins: ANODE, CATHODE

## LED_2
designator D?
pins: ANODE, CATHODE

## LT1129CS8_0
designator U?, comment LT1129CS8-3.3
2ND PART FIELD: SO-08; 4TH PART FIELD: LINEAR; 7TH PART FIELD: I.C.; 5TH PART FIELD: LT1129CS8-3.3
footprint SO-08
pins: 1 VOUT, 2 SENSE, 3 GND, 5 ~{SHDN}, 6 GND, 7 GND, 8 VIN

## LTC4008EGN_3
designator U?, comment LTC4100GN
7th Part Field: I.C.,; 5th Part Field: LTC4008EGN; 4th Part Field: Linear Tech. Corp.
footprint SSOP-20GN
pins: 1 TGATE, 2 PGND, 3 BGATE, 4 INFET, 5 DCIN, 6 CHGEN, 7 ~{SMBALER}T, 8 SDA, 9 SCL, 10 ACP, 11 DCDIV, 12 GND, 13 ILIM, 14 VLIM, 15 THB, 16 THA, 17 VDD, 18 VSET, 19 ITH, 20 IDC, 21 CSP, 22 BAT, 23 CLN, 24 CLP

## LTC4368_0
designator U?
footprint DFN-10PIN-3X3
pins: 1 VIN, 2 UV, 3 OV, 4 RETRY, 5 GND, 6 SHDN, 7 FAULT, 8 VOUT, 9 SENSE, 10 GATE

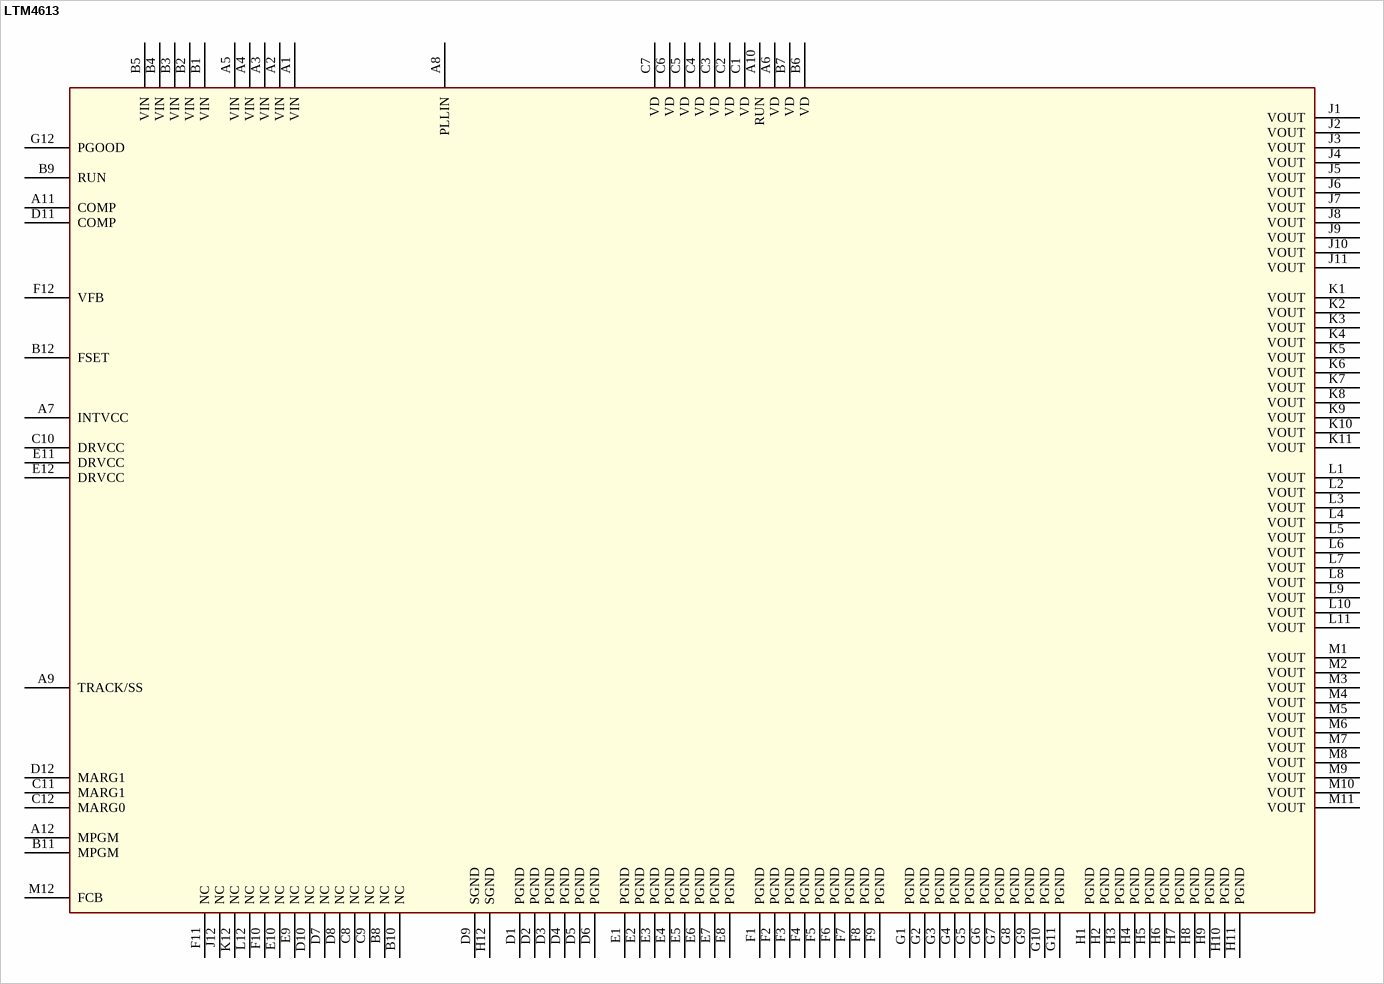
[diagram p4: symbol LTM4613]

## LTM4613
designator U?
pins: A1 VIN, A2 VIN, A3 VIN, A4 VIN, A5 VIN, A6 VD, A7 INTVCC, A8 PLLIN, A9 TRACK/SS, A10 RUN, A11 COMP, A12 MPGM, B1 VIN, B2 VIN, B3 VIN, B4 VIN, B5 VIN, B6 VD, B7 VD, B8 NC, B9 RUN, B10 NC, B11 MPGM, B12 FSET, C1 VD, C2 VD, C3 VD, C4 VD, C5 VD, C6 VD, C7 VD, C8 NC, C9 NC, C10 DRVCC, C11 MARG1, C12 MARG0, D1 PGND, D2 PGND, D3 PGND, D4 PGND, D5 PGND, D6 PGND, D7 NC, D8 NC, D9 SGND, D10 NC, D11 COMP, D12 MARG1, E1 PGND, E2 PGND, E3 PGND, E4 PGND, E5 PGND, E6 PGND, E7 PGND, E8 PGND, E9 NC, E10 NC, E11 DRVCC, E12 DRVCC, F1 PGND, F2 PGND, F3 PGND, F4 PGND, F5 PGND, F6 PGND, F7 PGND, F8 PGND, F9 PGND, F10 NC, F11 NC, F12 VFB, G1 PGND, G2 PGND, G3 PGND, G4 PGND, G5 PGND, G6 PGND, G7 PGND, G8 PGND, G9 PGND, G10 PGND, G11 PGND, G12 PGOOD, H1 PGND, H2 PGND, H3 PGND, H4 PGND, H5 PGND, H6 PGND, H7 PGND, H8 PGND, H9 PGND, H10 PGND, H11 PGND, H12 SGND, J1 VOUT, J2 VOUT, J3 VOUT, J4 VOUT, J5 VOUT, J6 VOUT, J7 VOUT, J8 VOUT, J9 VOUT, J10 VOUT, J11 VOUT, J12 NC, K1 VOUT, K2 VOUT, K3 VOUT, K4 VOUT, K5 VOUT, K6 VOUT, K7 VOUT, K8 VOUT, K9 VOUT, K10 VOUT, K11 VOUT, K12 NC, L1 VOUT, L2 VOUT, L3 VOUT, L4 VOUT, L5 VOUT, L6 VOUT, L7 VOUT, L8 VOUT, L9 VOUT, L10 VOUT, L11 VOUT, L12 NC, M1 VOUT, M2 VOUT, M3 VOUT, M4 VOUT, M5 VOUT, M6 VOUT, M7 VOUT, M8 VOUT, M9 VOUT, M10 VOUT, M11 VOUT, M12 FCB

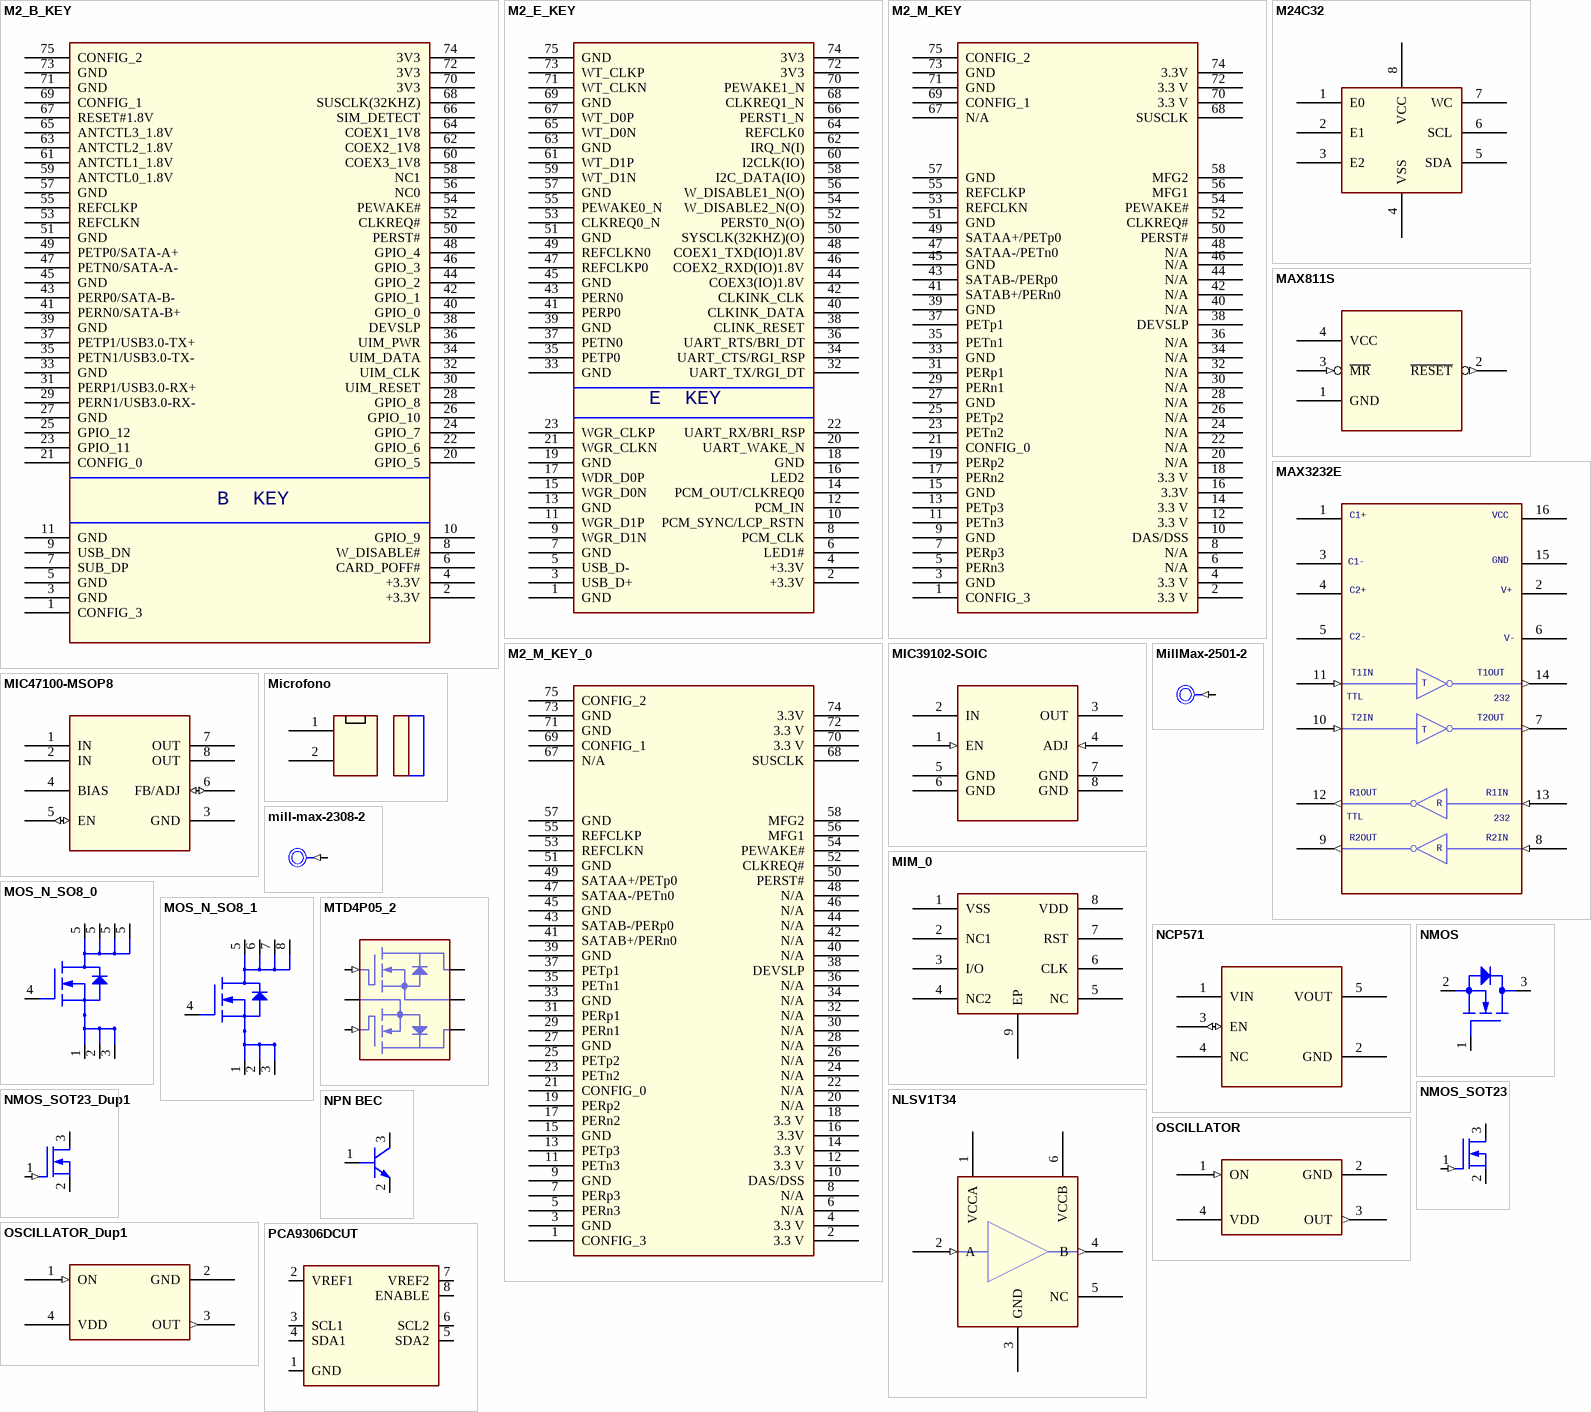
[diagram p5: symbols M2_B_KEY to PCA9306DCUT]

## M2_B_KEY
designator J?
pins: 1 CONFIG_3, 2 +3.3V, 3 GND, 4 +3.3V, 5 GND, 6 CARD_POFF#, 7 SUB_DP, 8 W_DISABLE#, 9 USB_DN, 10 GPIO_9, 11 GND, 20 GPIO_5, 21 CONFIG_0, 22 GPIO_6, 23 GPIO_11, 24 GPIO_7, 25 GPIO_12, 26 GPIO_10, 27 GND, 28 GPIO_8, 29 PERN1/USB3.0-RX-, 30 UIM_RESET, 31 PERP1/USB3.0-RX+, 32 UIM_CLK, 33 GND, 34 UIM_DATA, 35 PETN1/USB3.0-TX-, 36 UIM_PWR, 37 PETP1/USB3.0-TX+, 38 DEVSLP, 39 GND, 40 GPIO_0, 41 PERN0/SATA-B+, 42 GPIO_1, 43 PERP0/SATA-B-, 44 GPIO_2, 45 GND, 46 GPIO_3, 47 PETN0/SATA-A-, 48 GPIO_4, 49 PETP0/SATA-A+, 50 PERST#, 51 GND, 52 CLKREQ#, 53 REFCLKN, 54 PEWAKE#, 55 REFCLKP, 56 NC0, 57 GND, 58 NC1, 59 ANTCTL0_1.8V, 60 COEX3_1V8, 61 ANTCTL1_1.8V, 62 COEX2_1V8, 63 ANTCTL2_1.8V, 64 COEX1_1V8, 65 ANTCTL3_1.8V, 66 SIM_DETECT, 67 RESET#1.8V, 68 SUSCLK(32KHZ), 69 CONFIG_1, 70 3V3, 71 GND, 72 3V3, 73 GND, 74 3V3, 75 CONFIG_2
text: B  KEY

## M2_E_KEY
designator J?
pins: 1 GND, 2 +3.3V, 3 USB_D+, 4 +3.3V, 5 USB_D-, 6 LED1#, 7 GND, 8 PCM_CLK, 9 WGR_D1N, 10 PCM_SYNC/LCP_RSTN, 11 WGR_D1P, 12 PCM_IN, 13 GND, 14 PCM_OUT/CLKREQ0, 15 WGR_D0N, 16 LED2, 17 WDR_D0P, 18 GND, 19 GND, 20 UART_WAKE_N, 21 WGR_CLKN, 22 UART_RX/BRI_RSP, 23 WGR_CLKP, 32 UART_TX/RGI_DT, 33 GND, 34 UART_CTS/RGI_RSP, 35 PETP0, 36 UART_RTS/BRI_DT, 37 PETN0, 38 CLINK_RESET, 39 GND, 40 CLKINK_DATA, 41 PERP0, 42 CLKINK_CLK, 43 PERN0, 44 COEX3(IO)1.8V, 45 GND, 46 COEX2_RXD(IO)1.8V, 47 REFCLKP0, 48 COEX1_TXD(IO)1.8V, 49 REFCLKN0, 50 SYSCLK(32KHZ)(O), 51 GND, 52 PERST0_N(O), 53 CLKREQ0_N, 54 W_DISABLE2_N(O), 55 PEWAKE0_N, 56 W_DISABLE1_N(O), 57 GND, 58 I2C_DATA(IO), 59 WT_D1N, 60 I2CLK(IO), 61 WT_D1P, 62 IRQ_N(I), 63 GND, 64 REFCLK0, 65 WT_D0N, 66 PERST1_N, 67 WT_D0P, 68 CLKREQ1_N, 69 GND, 70 PEWAKE1_N, 71 WT_CLKN, 72 3V3, 73 WT_CLKP, 74 3V3, 75 GND
text: E  KEY

## M2_M_KEY
designator J?
pins: 1 CONFIG_3, 2 3.3 V, 3 GND, 4 3.3 V, 5 PERn3, 6 N/A, 7 PERp3, 8 N/A, 9 GND, 10 DAS/DSS, 11 PETn3, 12 3.3 V, 13 PETp3, 14 3.3 V, 15 GND, 16 3.3V, 17 PERn2, 18 3.3 V, 19 PERp2, 20 N/A, 21 CONFIG_0, 22 N/A, 23 PETn2, 24 N/A, 25 PETp2, 26 N/A, 27 GND, 28 N/A, 29 PERn1, 30 N/A, 31 PERp1, 32 N/A, 33 GND, 34 N/A, 35 PETn1, 36 N/A, 37 PETp1, 38 DEVSLP, 39 GND, 40 N/A, 41 SATAB+/PERn0, 42 N/A, 43 SATAB-/PERp0, 44 N/A, 45 GND, 46 N/A, 47 SATAA-/PETn0, 48 N/A, 49 SATAA+/PETp0, 50 PERST#, 51 GND, 52 CLKREQ#, 53 REFCLKN, 54 PEWAKE#, 55 REFCLKP, 56 MFG1, 57 GND, 58 MFG2, 67 N/A, 68 SUSCLK, 69 CONFIG_1, 70 3.3 V, 71 GND, 72 3.3 V, 73 GND, 74 3.3V, 75 CONFIG_2

## M2_M_KEY_0
designator J?
pins: 1 CONFIG_3, 2 3.3 V, 3 GND, 4 3.3 V, 5 PERn3, 6 N/A, 7 PERp3, 8 N/A, 9 GND, 10 DAS/DSS, 11 PETn3, 12 3.3 V, 13 PETp3, 14 3.3 V, 15 GND, 16 3.3V, 17 PERn2, 18 3.3 V, 19 PERp2, 20 N/A, 21 CONFIG_0, 22 N/A, 23 PETn2, 24 N/A, 25 PETp2, 26 N/A, 27 GND, 28 N/A, 29 PERn1, 30 N/A, 31 PERp1, 32 N/A, 33 GND, 34 N/A, 35 PETn1, 36 N/A, 37 PETp1, 38 DEVSLP, 39 GND, 40 N/A, 41 SATAB+/PERn0, 42 N/A, 43 SATAB-/PERp0, 44 N/A, 45 GND, 46 N/A, 47 SATAA-/PETn0, 48 N/A, 49 SATAA+/PETp0, 50 PERST#, 51 GND, 52 CLKREQ#, 53 REFCLKN, 54 PEWAKE#, 55 REFCLKP, 56 MFG1, 57 GND, 58 MFG2, 67 N/A, 68 SUSCLK, 69 CONFIG_1, 70 3.3 V, 71 GND, 72 3.3 V, 73 GND, 74 3.3V, 75 CONFIG_2

## M24C32
designator U?
footprint SOIC8
pins: 1 E0, 2 E1, 3 E2, 4 VSS (power), 5 SDA, 6 SCL, 7 WC, 8 VCC (power)

## MAX811S
designator U?
footprint SOT143
pins: 1 GND (power), 2 ~{RESET} (out), 3 ~{MR} (in), 4 VCC (power)

## MAX3232E
designator U?
pins: 1, 2, 3, 4, 5, 6, 7 (out), 8 (in), 9 (out), 10 (in), 11 (in), 12 (out), 13 (in), 14 (out), 15 GND (power), 16 VCC (power)
text: C1+; C1-; C2+; V+; C2-; V-; T1IN; T1OUT; T; TTL; 232; T2IN; T2OUT; R1OUT; R1IN; R; R2OUT; R2IN

## MIC39102-SOIC
designator U?
footprint SOIC-8
pins: 1 EN (in), 2 IN (power), 3 OUT (power), 4 ADJ (in), 5 GND (power), 6 GND (power), 7 GND (power), 8 GND (power)

## MIC47100-MSOP8
designator U?
footprint msop_8
pins: 1 IN (power), 2 IN (power), 3 GND (power), 4 BIAS (power), 5 EN (io), 6 FB/ADJ (io), 7 OUT (power), 8 OUT (power)

## Microfono
designator J?
footprint SMD_2X50_P=0.635mm
pins: 1, 2

## mill-max-2308-2
designator TP?  (value not drawn)
7th Part Field: Testpoint,; 5th Part Field: 2308-2; 4th Part Field: Mill-Max
footprint mill-max-2308
pins: 1 (in)

## MillMax-2501-2
designator TP?, comment Testpoint  (value not drawn)
7th Part Field: Turret,; 5th Part Field: 2501-2; 4th Part Field: Mill Max
footprint MILLMAX-2501-2
pins: 1 (in)

## MIM_0
designator U?
footprint SO-8
pins: 1 VSS, 2 NC1, 3 I/O, 4 NC2, 5 NC, 6 CLK, 7 RST, 8 VDD, 9 EP

## MOS_N_SO8_0
designator Q?
footprint SSOT-6
pins: 1 S1, 2 S2, 3 S3, 4 G, 5 D1, 5 D2, 5 D3, 5 D4

## MOS_N_SO8_1
designator Q?
footprint SSOT-6
pins: 1 S1, 2 S2, 3 S3, 4 G, 5 D1, 6, 7, 8

## MTD4P05_2
designator Q?
pins: 1 G1 (in), 2 S2, 3 G2 (in), 4 D2, 5 S1, 6 D1

## NCP571
designator U?
pins: 1 VIN (power), 2 GND (power), 3 EN (io), 4 NC, 5 VOUT (power)

## NLSV1T34
designator U?
CLASS: IC
pins: 1 VCCA (power), 2 A (in), 3 GND (power), 4 B (out), 5 NC, 6 VCCB (power)

## NMOS
designator Q?
footprint sot23
pins: 1 G, 2 S, 3 D

## NMOS_SOT23
designator M?
pins: 1 GATE (in), 2 SOURCE, 3 DRAIN

## NMOS_SOT23_Dup1
designator M?
pins: 1 GATE (in), 2 SOURCE, 3 DRAIN

## NPN BEC
designator Q?
pins: 1 B, 2 E, 3 C

## OSCILLATOR
designator U?
footprint 4 PIN SMT
pins: 1 ON (in), 2 GND (power), 3 OUT (out), 4 VDD (power)

## OSCILLATOR_Dup1
designator U?
footprint 4 PIN SMT
pins: 1 ON (in), 2 GND (power), 3 OUT (out), 4 VDD (power)

## PCA9306DCUT
designator U?
pins: 1 GND, 2 VREF1, 3 SCL1, 4 SDA1, 5 SDA2, 6 SCL2, 7 VREF2, 8 ENABLE

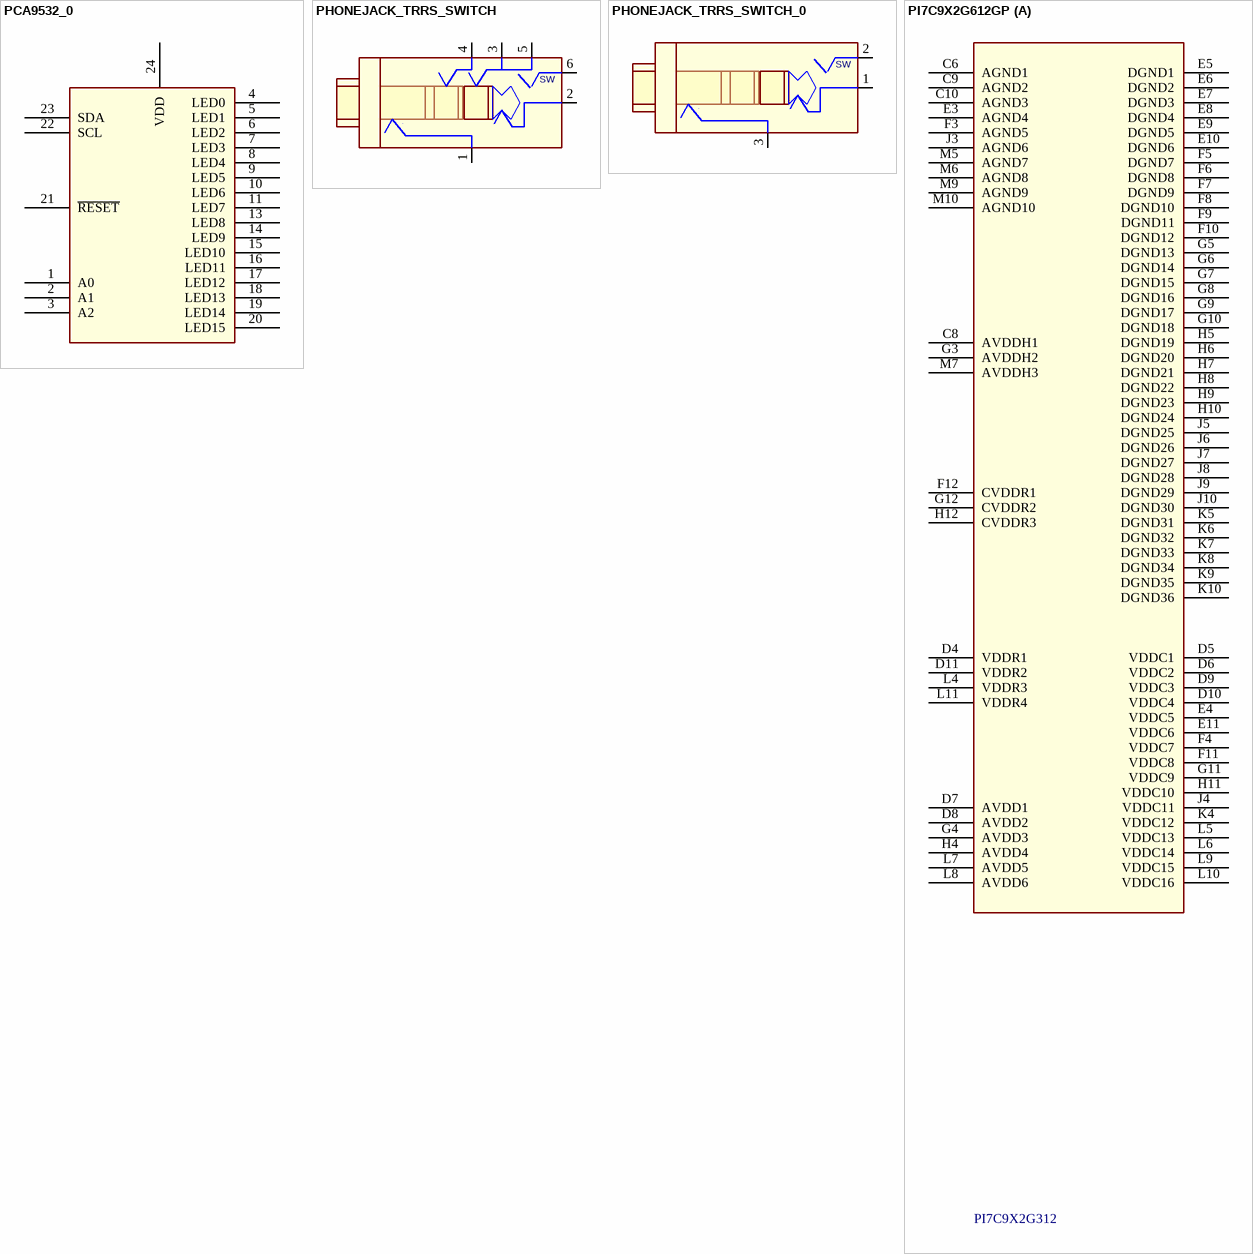
[diagram p6: symbols PCA9532_0 to PI7C9X2G612GP]

## PCA9532_0
designator U?
footprint TSSOP24
pins: 1 A0, 2 A1, 3 A2, 4 LED0, 5 LED1, 6 LED2, 7 LED3, 8 LED4, 9 LED5, 10 LED6, 11 LED7, 13 LED8, 14 LED9, 15 LED10, 16 LED11, 17 LED12, 18 LED13, 19 LED14, 20 LED15, 21 ~{RESET}, 22 SCL, 23 SDA, 24 VDD (power)

## PHONEJACK_TRRS_SWITCH
designator J?
RoHS: YES
pins: 1 MIC, 2 L, 3 R, 4 GND, 5, 6
text: SW

## PHONEJACK_TRRS_SWITCH_0
designator J?
RoHS: YES
pins: 1, 2, 3
text: SW

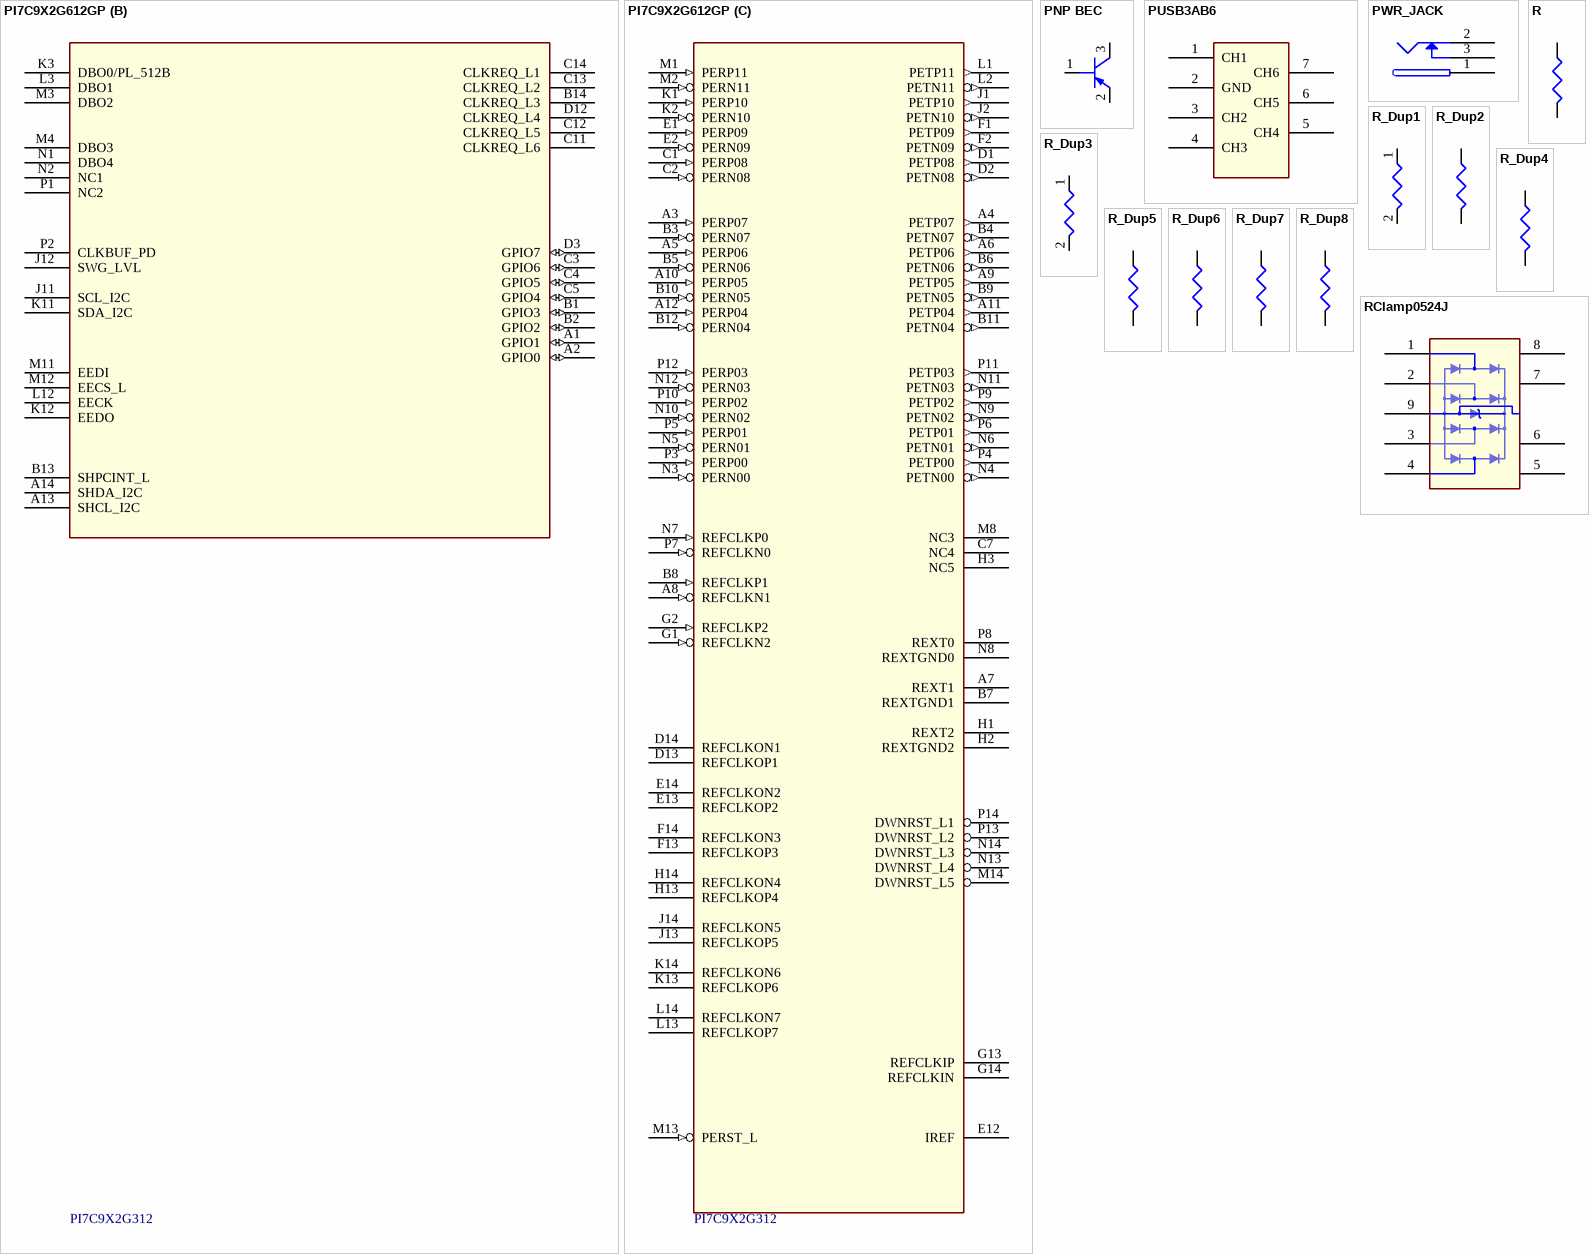
[diagram p7: symbols PI7C9X2G612GP to RClamp0524J]

## PI7C9X2G612GP
designator U?, comment PI7C9X2G312
footprint LQFP
part A pins: C6 AGND1 (power), C8 AVDDH1 (power), C9 AGND2 (power), C10 AGND3 (power), D4 VDDR1 (power), D5 VDDC1 (power), D6 VDDC2 (power), D7 AVDD1 (power), D8 AVDD2 (power), D9 VDDC3 (power), D10 VDDC4 (power), D11 VDDR2 (power), E3 AGND4 (power), E4 VDDC5 (power), E5 DGND1 (power), E6 DGND2 (power), E7 DGND3 (power), E8 DGND4 (power), E9 DGND5 (power), E10 DGND6 (power), E11 VDDC6 (power), F3 AGND5 (power), F4 VDDC7 (power), F5 DGND7 (power), F6 DGND8 (power), F7 DGND9 (power), F8 DGND10 (power), F9 DGND11 (power), F10 DGND12 (power), F11 VDDC8 (power), F12 CVDDR1 (power), G3 AVDDH2 (power), G4 AVDD3 (power), G5 DGND13 (power), G6 DGND14 (power), G7 DGND15 (power), G8 DGND16 (power), G9 DGND17 (power), G10 DGND18 (power), G11 VDDC9 (power), G12 CVDDR2 (power), H4 AVDD4 (power), H5 DGND19 (power), H6 DGND20 (power), H7 DGND21 (power), H8 DGND22 (power), H9 DGND23 (power), H10 DGND24 (power), H11 VDDC10 (power), H12 CVDDR3 (power), J3 AGND6 (power), J4 VDDC11 (power), J5 DGND25 (power), J6 DGND26 (power), J7 DGND27 (power), J8 DGND28 (power), J9 DGND29 (power), J10 DGND30 (power), K4 VDDC12 (power), K5 DGND31 (power), K6 DGND32 (power), K7 DGND33 (power), K8 DGND34 (power), K9 DGND35 (power), K10 DGND36 (power), L4 VDDR3 (power), L5 VDDC13 (power), L6 VDDC14 (power), L7 AVDD5 (power), L8 AVDD6 (power), L9 VDDC15 (power), L10 VDDC16 (power), L11 VDDR4 (power), M5 AGND7 (power), M6 AGND8 (power), M7 AVDDH3 (power), M9 AGND9 (power), M10 AGND10 (power)
part B pins: A1 GPIO1 (io), A2 GPIO0 (io), A13 SHCL_I2C, A14 SHDA_I2C, B1 GPIO3 (io), B2 GPIO2 (io), B13 SHPCINT_L, B14 CLKREQ_L3, C3 GPIO6 (io), C4 GPIO5 (io), C5 GPIO4 (io), C11 CLKREQ_L6, C12 CLKREQ_L5, C13 CLKREQ_L2, C14 CLKREQ_L1, D3 GPIO7 (io), D12 CLKREQ_L4, J11 SCL_I2C, J12 SWG_LVL, K3 DBO0/PL_512B, K11 SDA_I2C, K12 EEDO, L3 DBO1, L12 EECK, M3 DBO2, M4 DBO3, M11 EEDI, M12 EECS_L, N1 DBO4, N2 NC1, P1 NC2, P2 CLKBUF_PD
part C pins: A3 PERP07 (in), A4 PETP07 (out), A5 PERP06 (in), A6 PETP06 (out), A7 REXT1, A8 REFCLKN1 (in), A9 PETP05 (out), A10 PERP05 (in), A11 PETP04 (out), A12 PERP04 (in), B3 PERN07 (in), B4 PETN07 (out), B5 PERN06 (in), B6 PETN06 (out), B7 REXTGND1, B8 REFCLKP1 (in), B9 PETN05 (out), B10 PERN05 (in), B11 PETN04 (out), B12 PERN04 (in), C1 PERP08 (in), C2 PERN08 (in), C7 NC4, D1 PETP08 (out), D2 PETN08 (out), D13 REFCLKOP1, D14 REFCLKON1, E1 PERP09 (in), E2 PERN09 (in), E12 IREF, E13 REFCLKOP2, E14 REFCLKON2, F1 PETP09 (out), F2 PETN09 (out), F13 REFCLKOP3, F14 REFCLKON3, G1 REFCLKN2 (in), G2 REFCLKP2 (in), G13 REFCLKIP, G14 REFCLKIN, H1 REXT2, H2 REXTGND2, H3 NC5, H13 REFCLKOP4, H14 REFCLKON4, J1 PETP10 (out), J2 PETN10 (out), J13 REFCLKOP5, J14 REFCLKON5, K1 PERP10 (in), K2 PERN10 (in), K13 REFCLKOP6, K14 REFCLKON6, L1 PETP11 (out), L2 PETN11 (out), L13 REFCLKOP7, L14 REFCLKON7, M1 PERP11 (in), M2 PERN11 (in), M8 NC3, M13 PERST_L (in), M14 DWNRST_L5, N3 PERN00 (in), N4 PETN00 (out), N5 PERN01 (in), N6 PETN01 (out), N7 REFCLKP0 (in), N8 REXTGND0, N9 PETN02 (out), N10 PERN02 (in), N11 PETN03 (out), N12 PERN03 (in), N13 DWNRST_L4, N14 DWNRST_L3, P3 PERP00 (in), P4 PETP00 (out), P5 PERP01 (in), P6 PETP01 (out), P7 REFCLKN0 (in), P8 REXT0, P9 PETP02 (out), P10 PERP02 (in), P11 PETP03 (out), P12 PERP03 (in), P13 DWNRST_L2, P14 DWNRST_L1

## PNP BEC
designator Q?
pins: 1 B, 2 E, 3 C

## PUSB3AB6
designator U?
pins: 1 CH1, 2 GND, 3 CH2, 4 CH3, 5 CH4, 6 CH5, 7 CH6

## PWR_JACK
designator J?
pins: 1, 2, 3

## R
designator R?
pins: 1, 2

## R_Dup1
designator R?
pins: 1, 2

## R_Dup2
designator R?
pins: 1, 2

## R_Dup3
designator R?
pins: 1, 2

## R_Dup4
designator R?
pins: 1, 2

## R_Dup5
designator R?
pins: 1, 2

## R_Dup6
designator R?
pins: 1, 2

## R_Dup7
designator R?
pins: 1, 2

## R_Dup8
designator R?
pins: 1, 2

## RClamp0524J
designator U?
footprint tvs_slp2710p8
pins: 1, 2, 3, 4, 5, 6, 7, 8, 9

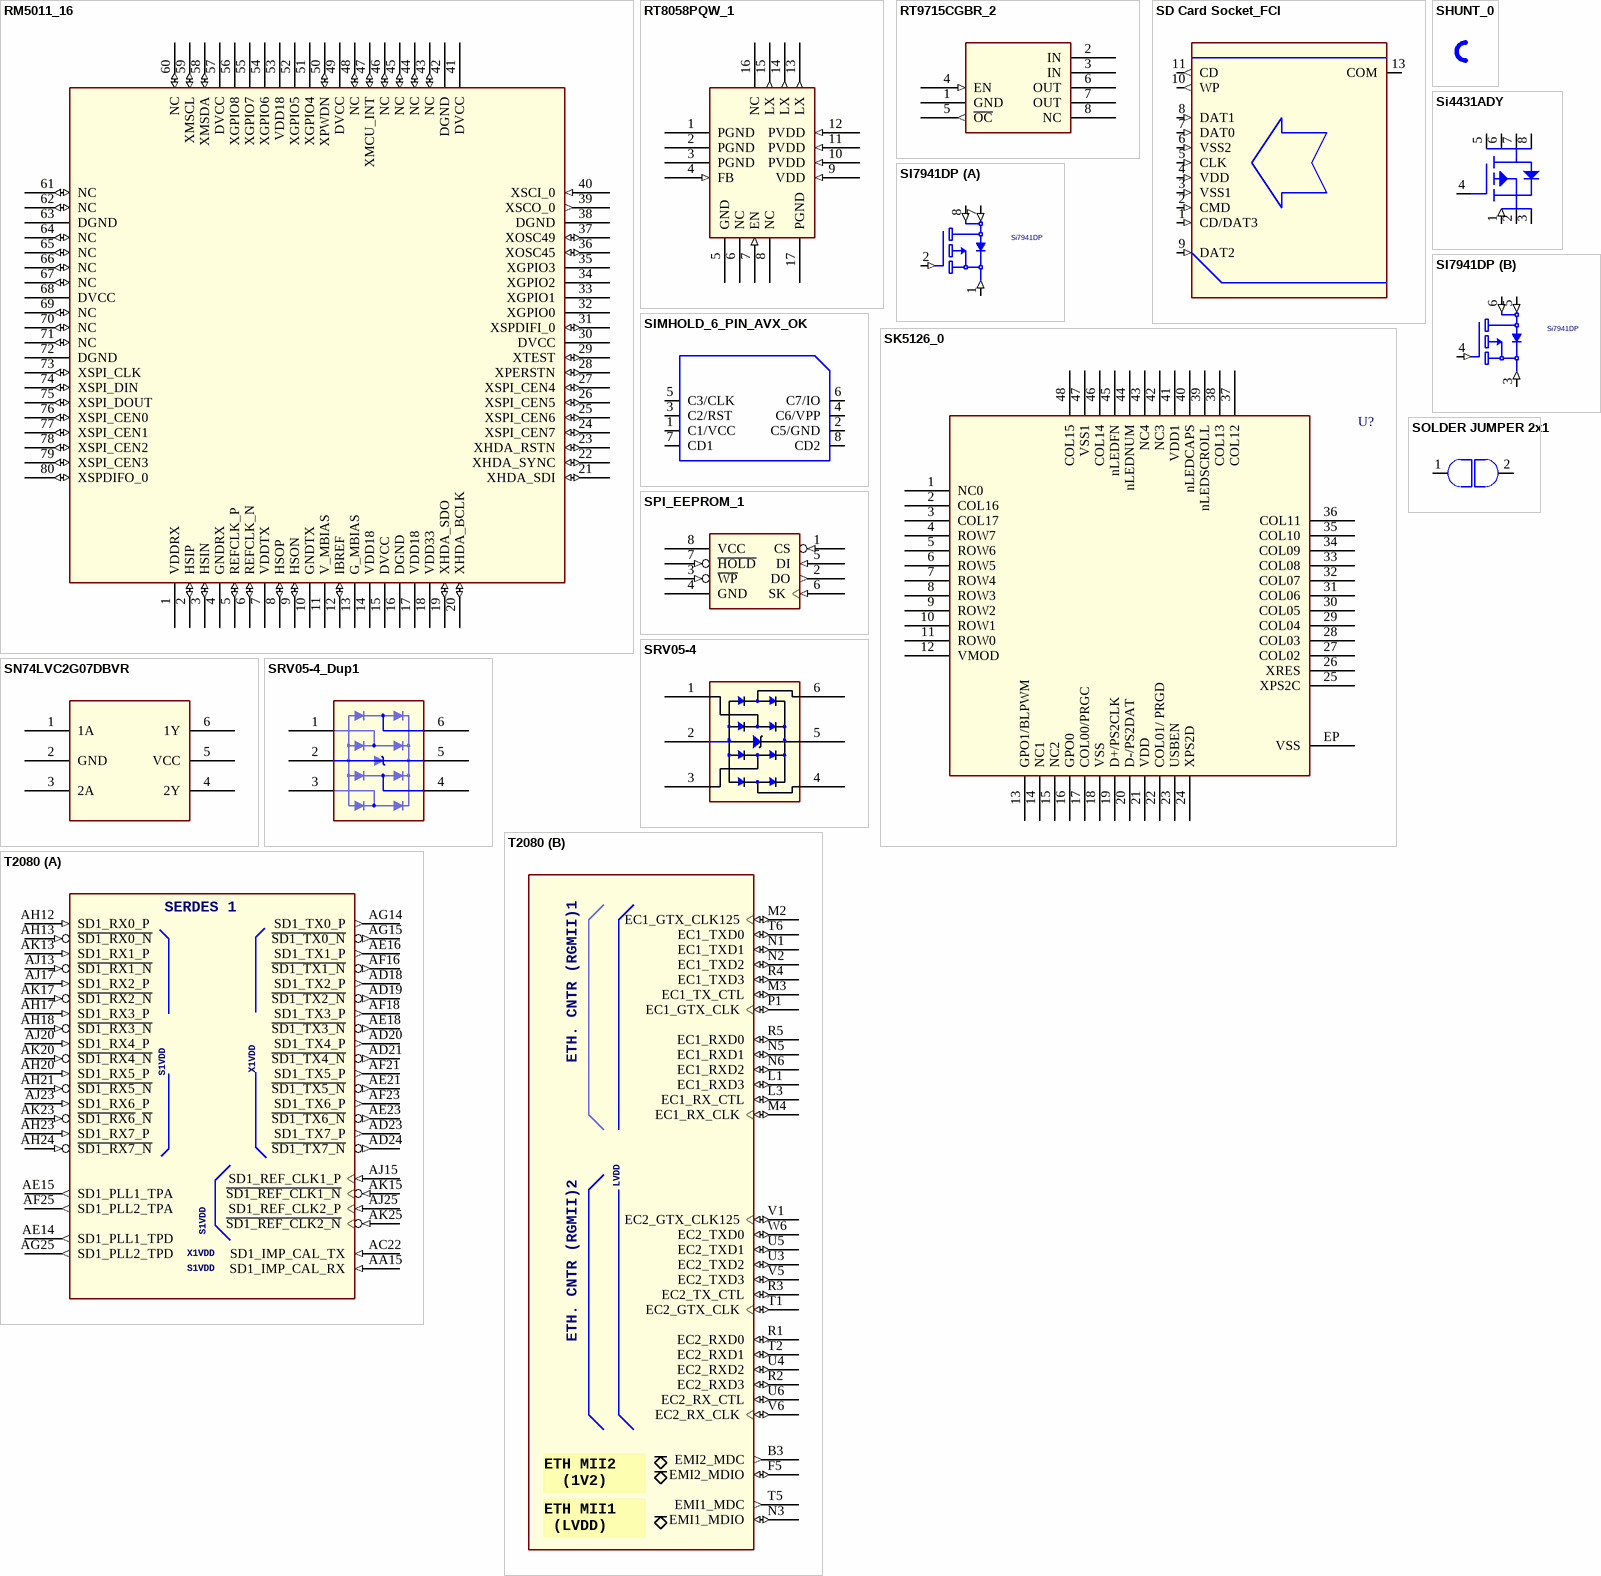
[diagram p8: symbols RM5011_16 to T2080]

## RM5011_16
designator U?
pins: 1 VDDRX (power), 2 HSIP (io), 3 HSIN (io), 4 GNDRX (power), 5 REFCLK_P (io), 6 REFCLK_N (io), 7 VDDTX (power), 8 HSOP (io), 9 HSON (io), 10 GNDTX (power), 11 V_MBIAS (power), 12 IBREF (io), 13 G_MBIAS (power), 14 VDD18 (power), 15 DVCC (power), 16 DGND (power), 17 VDD18 (power), 18 VDD33 (power), 19 XHDA_SDO (io), 20 XHDA_BCLK (io), 21 XHDA_SDI (io), 22 XHDA_SYNC (io), 23 XHDA_RSTN (io), 24 XSPI_CEN7 (io), 25 XSPI_CEN6 (io), 26 XSPI_CEN5 (io), 27 XSPI_CEN4 (io), 28 XPERSTN (io), 29 XTEST (io), 30 DVCC (power), 31 XSPDIFI_0 (io), 32 XGPIO0, 33 XGPIO1, 34 XGPIO2, 35 XGPIO3, 36 XOSC45 (io), 37 XOSC49 (io), 38 DGND (power), 39 XSCO_0 (out), 40 XSCI_0 (in), 41 DVCC (power), 42 DGND (power), 43 NC (io), 44 NC (io), 45 NC (io), 46 NC (io), 47 XMCU_INT (io), 48 NC (io), 49 DVCC (power), 50 XPWDN (io), 51 XGPIO4, 52 XGPIO5, 53 VDD18 (power), 54 XGPIO6, 55 XGPIO7, 56 XGPIO8, 57 DVCC (power), 58 XMSDA (io), 59 XMSCL (io), 60 NC (io), 61 NC (io), 62 NC (io), 63 DGND (power), 64 NC (io), 65 NC (io), 66 NC (io), 67 NC (io), 68 DVCC (power), 69 NC (io), 70 NC (io), 71 NC (io), 72 DGND (power), 73 XSPI_CLK (io), 74 XSPI_DIN (io), 75 XSPI_DOUT (io), 76 XSPI_CEN0 (io), 77 XSPI_CEN1 (io), 78 XSPI_CEN2 (io), 79 XSPI_CEN3 (io), 80 XSPDIFO_0 (io)

## RT8058PQW_1
designator U?
pins: 1 PGND, 2 PGND, 3 PGND, 4 FB (in), 5 GND, 6 NC, 7 EN (in), 8 NC, 9 VDD (in), 10 PVDD (in), 11 PVDD (in), 12 PVDD (in), 13 LX (out), 14 LX (out), 15 LX (out), 16 NC, 17 PGND

## RT9715CGBR_2
designator U?
pins: 1 GND, 2 IN, 3 IN, 4 EN (in), 5 ~{OC} (out), 6 OUT, 7 OUT, 8 NC

## SD Card Socket_FCI
designator J?
pins: 1 CD/DAT3 (in), 2 CMD (in), 3 VSS1 (in), 4 VDD (in), 5 CLK (in), 6 VSS2 (in), 7 DAT0 (in), 8 DAT1 (in), 9 DAT2 (in), 10 WP (out), 11 CD (out), 13 COM

## SHUNT_0
designator X?
footprint NONE

## Si4431ADY
designator Q?
pins: 1 S0 (in), 2 S1, 3 S2, 4 G, 5 D0, 6 D1, 7 D2, 8 D4

## SI7941DP
designator Q?, comment Si7941DP
4th Part Field: Siliconix; 7th Part Field: Dual P-Chan.,; 5th Part Field: Si7941DP
footprint POWERPAK-SO-8/D
part A pins: 1 S (in), 2 G (in), 7 D (in), 8 D (in)
part B pins: 3 S (in), 4 G (in), 5 D (in), 6 D (in)

## SIMHOLD_6_PIN_AVX_OK
designator J?
pins: 1 C1/VCC, 2 C5/GND, 3 C2/RST, 4 C6/VPP, 5 C3/CLK, 6 C7/IO, 7 CD1, 8 CD2

## SK5126_0
designator U?  (value not drawn)
pins: 1 NC0, 2 COL16, 3 COL17, 4 ROW7, 5 ROW6, 6 ROW5, 7 ROW4, 8 ROW3, 9 ROW2, 10 ROW1, 11 ROW0, 12 VMOD, 13 GPO1/BLPWM, 14 NC1, 15 NC2, 16 GPO0, 17 COL00/PRGC, 18 VSS, 19 D+/PS2CLK, 20 D-/PS2DAT, 21 VDD, 22 COL01/ PRGD, 23 USBEN, 24 XPS2D, 25 XPS2C, 26 XRES, 27 COL02, 28 COL03, 29 COL04, 30 COL05, 31 COL06, 32 COL07, 33 COL08, 34 COL09, 35 COL10, 36 COL11, 37 COL12, 38 COL13, 39 nLEDSCROLL, 40 nLEDCAPS, 41 VDD1, 42 NC3, 43 NC4, 44 nLEDNUM, 45 nLEDFN, 46 COL14, 47 VSS1, 48 COL15, EP VSS

## SN74LVC2G07DBVR
designator U?
pins: 1 1A, 2 GND, 3 2A, 4 2Y, 5 VCC, 6 1Y

## SOLDER JUMPER 2x1
designator JPS?
pins: 1, 2

## SPI_EEPROM_1
designator U?
pins: 1 CS (in), 2 DO (out), 3 ~{WP} (in), 4 GND (power), 5 DI (in), 6 SK (in), 7 ~{HOLD} (in), 8 VCC (power)

## SRV05-4
designator U?
CLASS: IC
pins: 1 I/O1, 2 GND, 3 I/O3, 4 I/O4, 5 VCC, 6 I/O6

## SRV05-4_Dup1
designator U?
footprint SOT23_6
pins: 1, 2, 3, 4, 5, 6

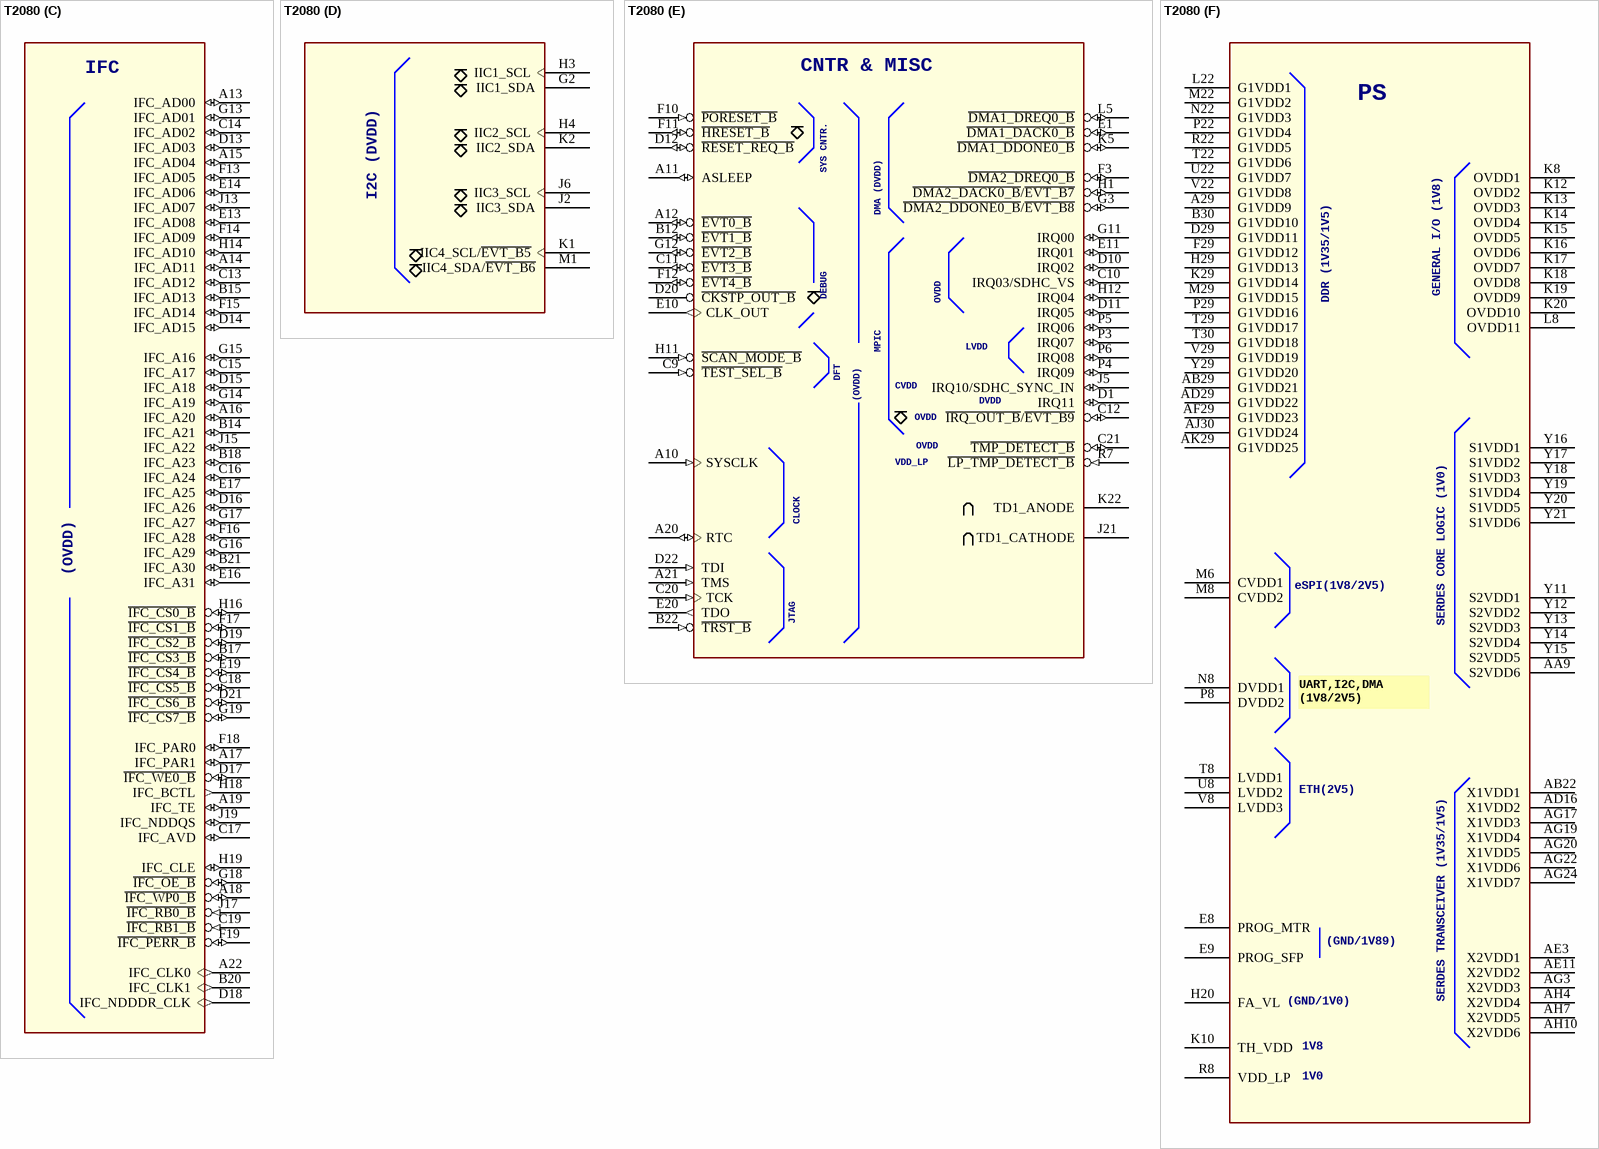
[diagram p9: symbol T2080]

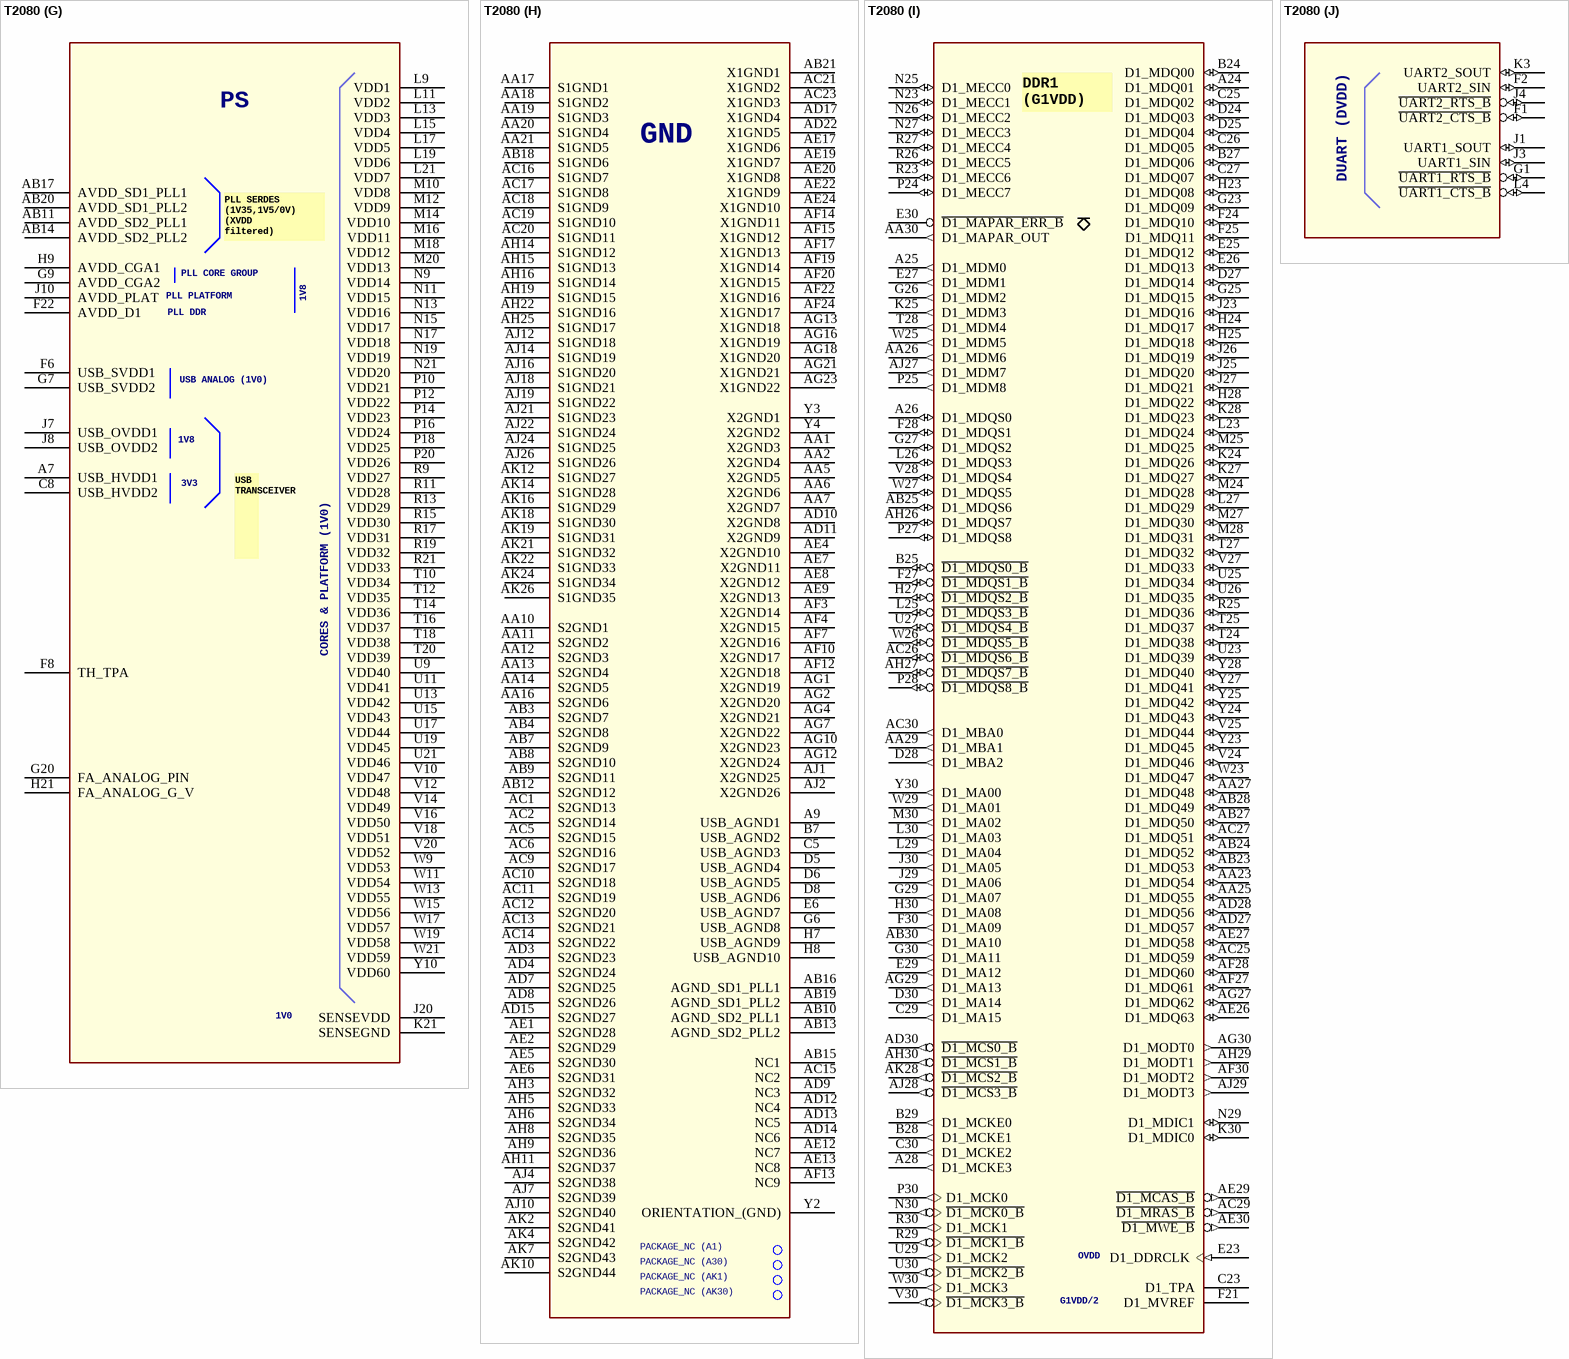
[diagram p10: symbol T2080]

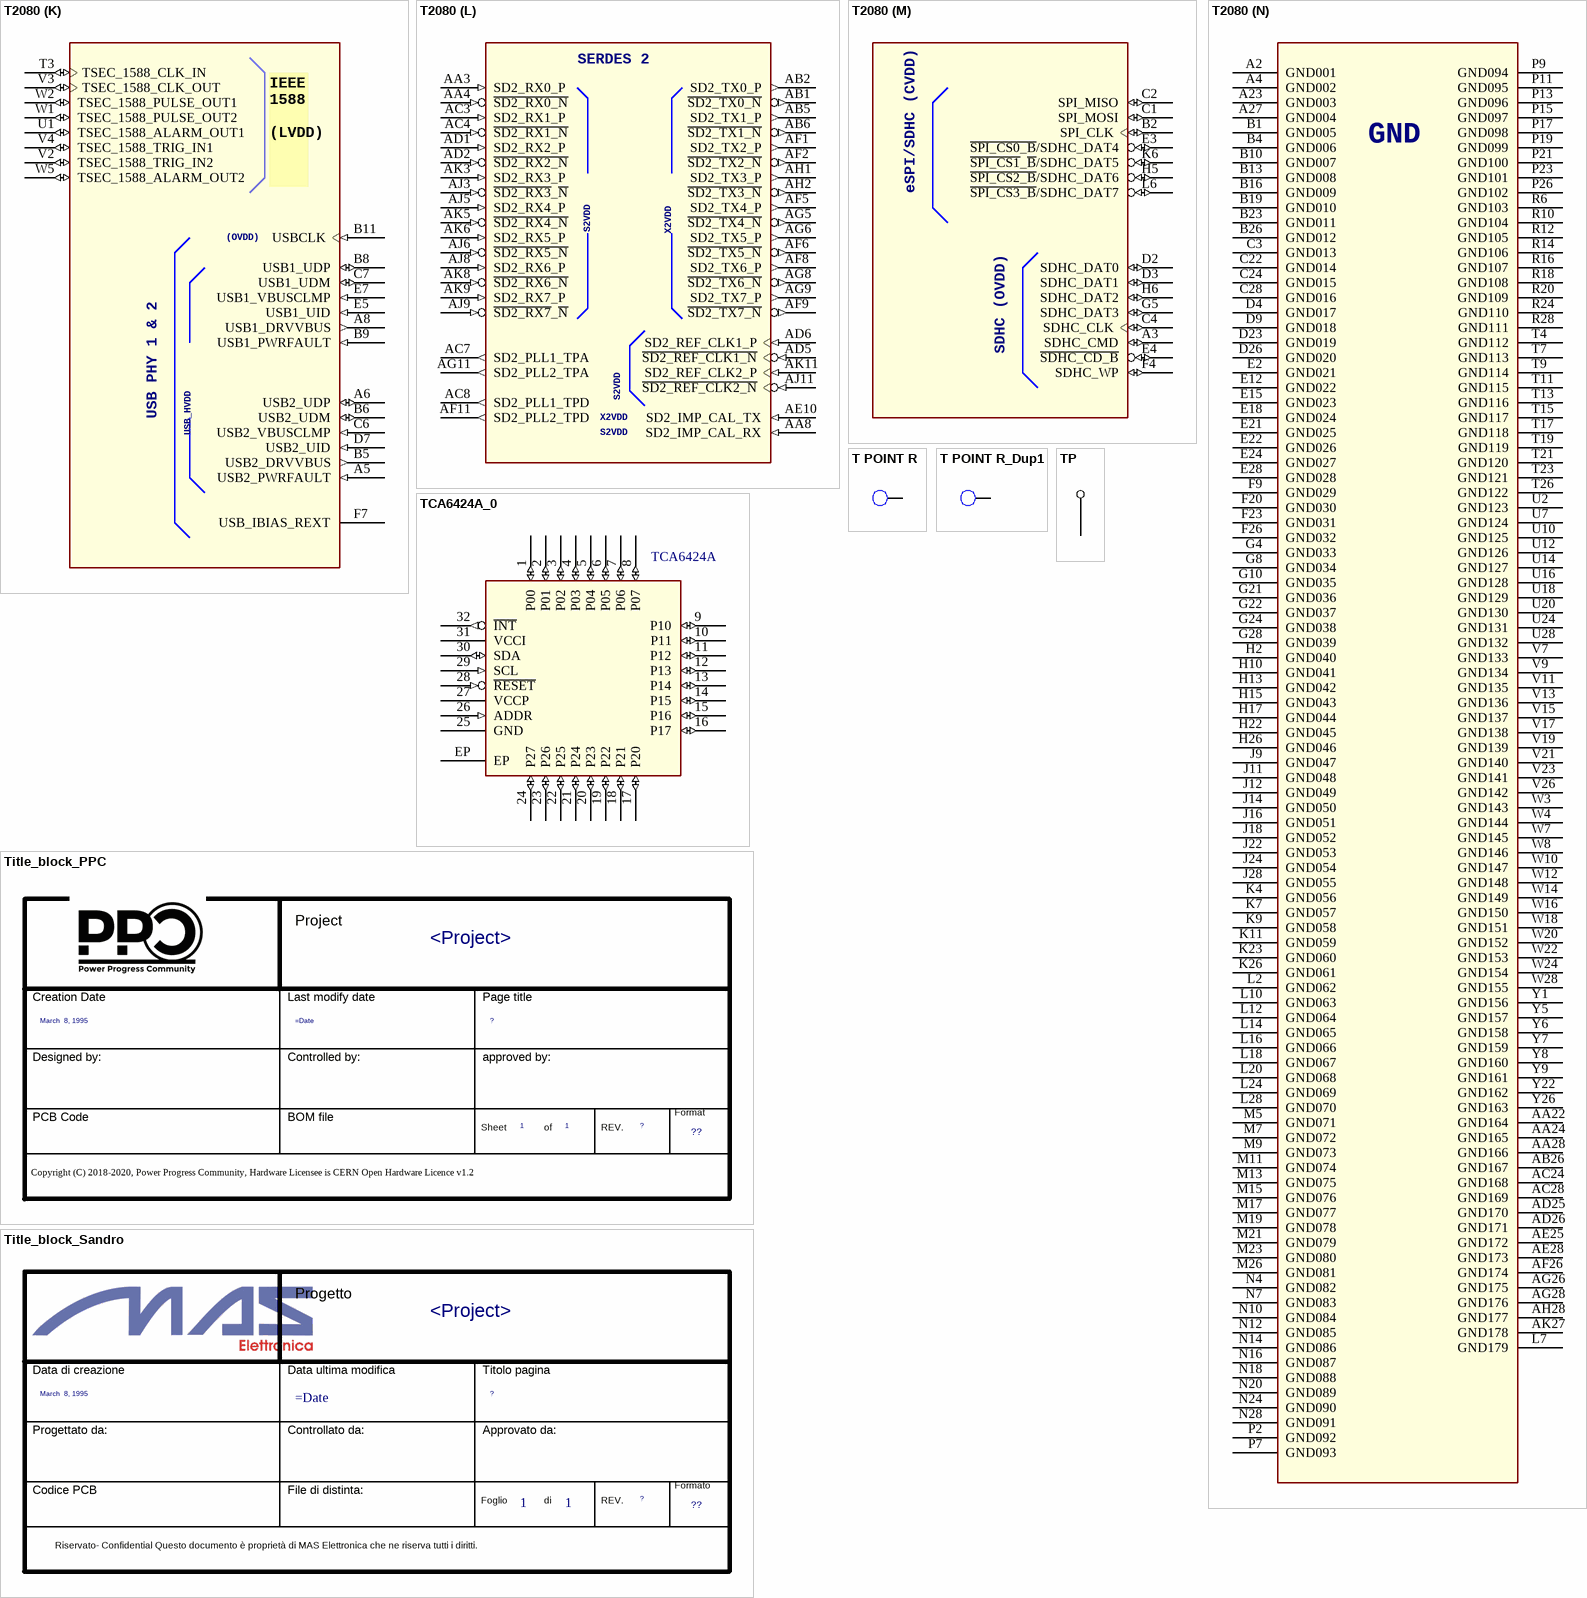
[diagram p11: symbols T2080 to TP]